# Altium integrated library Atmel Microcontroller megaAVR.IntLib: 654 symbols (part 17 of 29)
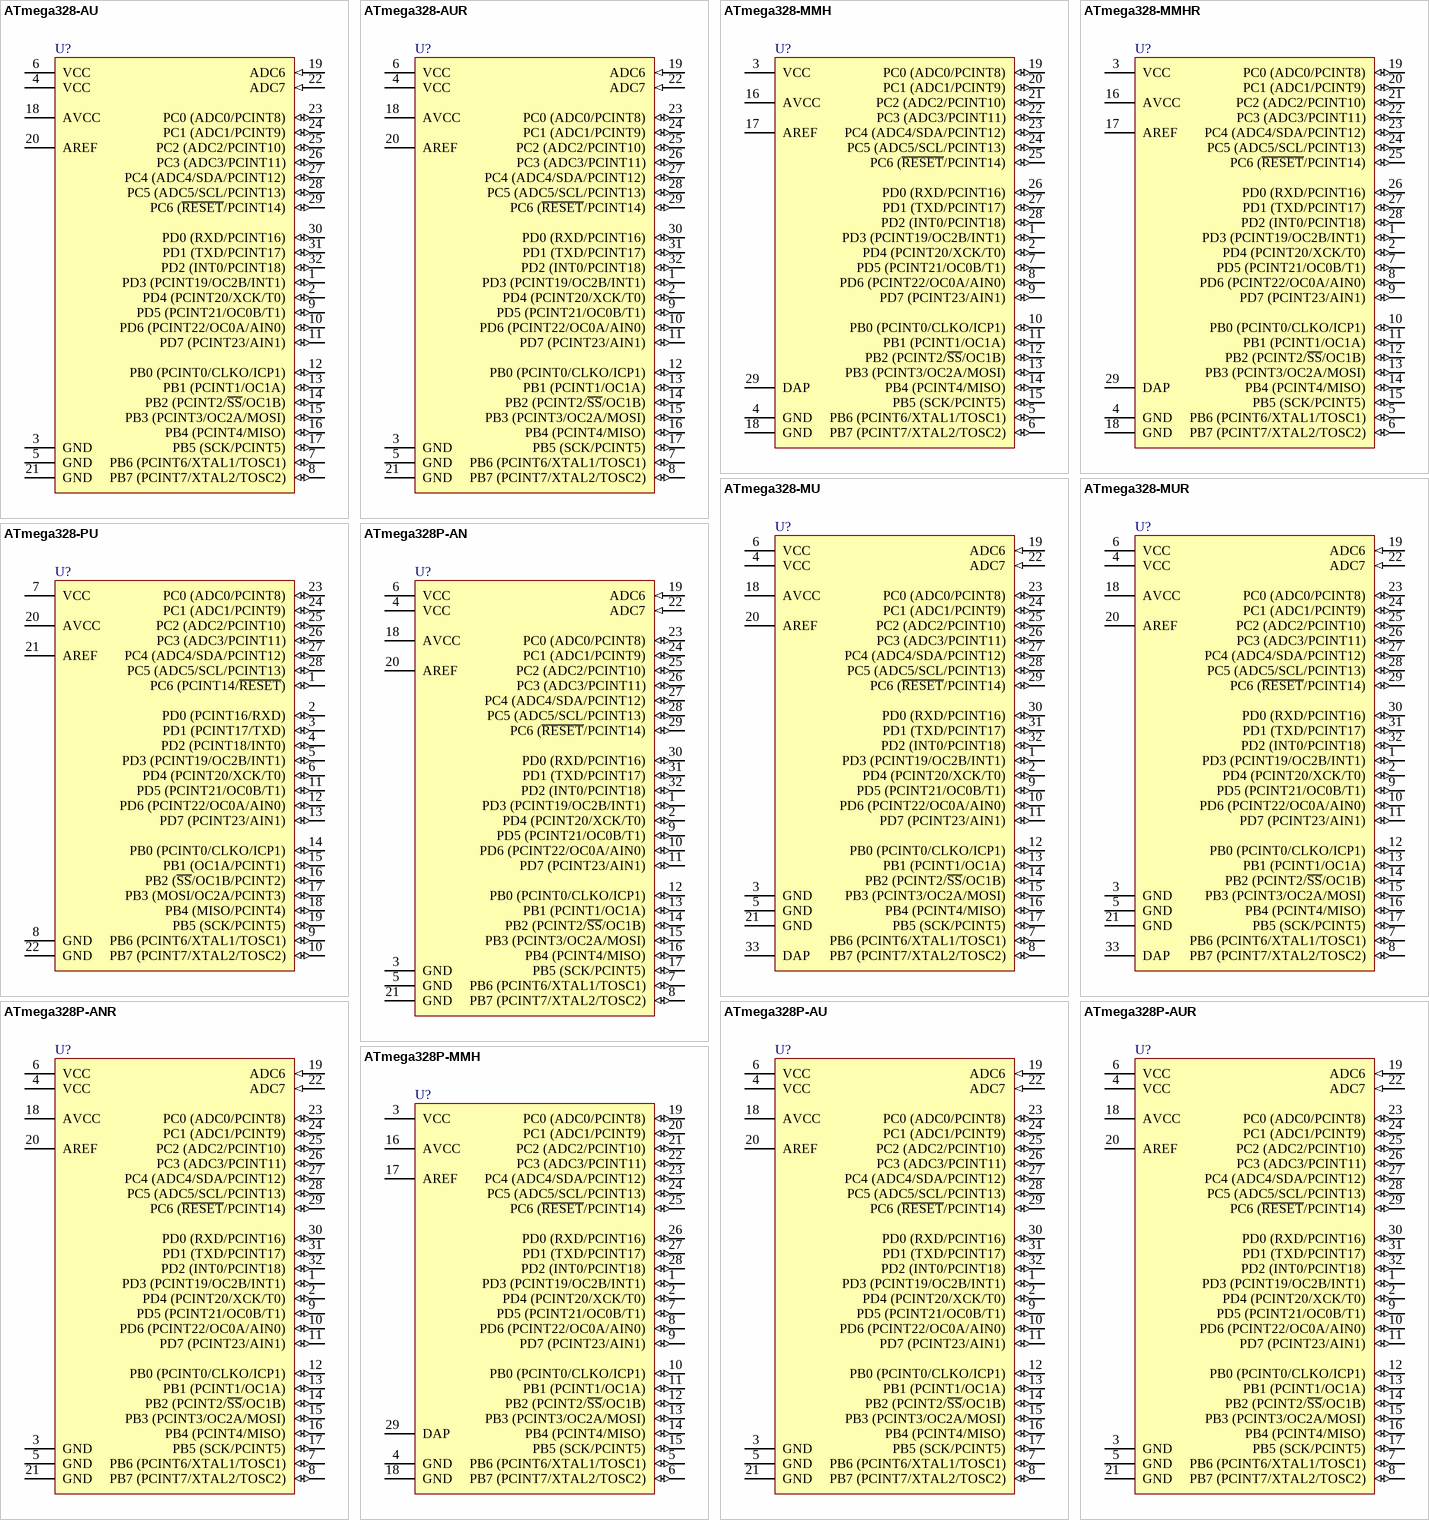
[diagram p103: symbols ATmega328-AU to ATmega328P-MMH]

## ATmega328-MUR
designator U?
8-bit AVR Microcontroller, 32KB Flash, 1KB EEPROM, 2KB SRAM, 32-pin MLF, Industrial Grade (-40°C to 85°C), Reel; DatasheetVersion: revD, May-2011; PackageVersion: revE, May-2006; PackageReference: 32M1-A; PackageDescription: 32-Pin Micro Lead Frame Package (MLF),  5 x 5 x 1.0 mm Body, Pitch 0.50 mm, 3.10mm Exposed Pad; Code_JEDEC: MO-220-VHHD-2; ComponentLink1Description: Manufacturer URL; ComponentLink1URL: http://www.atmel.com/; ComponentLink2Description: ATmega48A/48PA/88A/88PA/168A/168PA/328/328P Datasheet; ComponentLink2URL: http://www.atmel.com/dyn/resources/prod_documents/8271.pdf; ComponentLink3Description: ATmega48A/48PA/88A/88PA/168A/168PA/328/328P Summary; ComponentLink3URL: http://www.atmel.com/dyn/resources/prod_documents/8271S.pdf
footprint 32M1-A_N (QFN, 32-Leads, Body 5x5mm, Pitch 0.5mm, Thermal Pad 3.3x3.3mm, IPC Medium Density)
footprint 32M1-A_L (QFN, 32-Leads, Body 5x5mm, Pitch 0.5mm, Thermal Pad 3.3x3.3mm, IPC High Density)
footprint 32M1-A_M (QFN, 32-Leads, Body 5x5mm, Pitch 0.5mm, Thermal Pad 3.3x3.3mm, IPC Low Density)
pins: 1 PD3 (PCINT19/OC2B/INT1) (io), 2 PD4 (PCINT20/XCK/T0) (io), 3 GND (power), 4 VCC (power), 5 GND (power), 6 VCC (power), 7 PB6 (PCINT6/XTAL1/TOSC1) (io), 8 PB7 (PCINT7/XTAL2/TOSC2) (io), 9 PD5 (PCINT21/OC0B/T1) (io), 10 PD6 (PCINT22/OC0A/AIN0) (io), 11 PD7 (PCINT23/AIN1) (io), 12 PB0 (PCINT0/CLKO/ICP1) (io), 13 PB1 (PCINT1/OC1A) (io), 14 PB2 (PCINT2/~{SS}/OC1B) (io), 15 PB3 (PCINT3/OC2A/MOSI) (io), 16 PB4 (PCINT4/MISO) (io), 17 PB5 (SCK/PCINT5) (io), 18 AVCC (power), 19 ADC6 (in), 20 AREF, 21 GND (power), 22 ADC7 (in), 23 PC0 (ADC0/PCINT8) (io), 24 PC1 (ADC1/PCINT9) (io), 25 PC2 (ADC2/PCINT10) (io), 26 PC3 (ADC3/PCINT11) (io), 27 PC4 (ADC4/SDA/PCINT12) (io), 28 PC5 (ADC5/SCL/PCINT13) (io), 29 PC6 (~{RESET}/PCINT14) (io), 30 PD0 (RXD/PCINT16) (io), 31 PD1 (TXD/PCINT17) (io), 32 PD2 (INT0/PCINT18) (io), 33 DAP (power)

## ATmega328-PU
designator U?
8-bit AVR Microcontroller, 32KB Flash, 1KB EEPROM, 2KB SRAM, 28-pin PDIP, Industrial Grade (-40°C to 85°C); DatasheetVersion: revD, May-2011; PackageVersion: revB, Sep-2001; PackageReference: 28P3; PackageDescription: 28-lead (0.300"/7.62mm Wide) Plastic Dual Inline Package (PDIP); ComponentLink1Description: Manufacturer URL; ComponentLink1URL: http://www.atmel.com/; ComponentLink2Description: ATmega48A/48PA/88A/88PA/168A/168PA/328/328P Datasheet; ComponentLink2URL: http://www.atmel.com/dyn/resources/prod_documents/8271.pdf; ComponentLink3Description: ATmega48A/48PA/88A/88PA/168A/168PA/328/328P Summary; ComponentLink3URL: http://www.atmel.com/dyn/resources/prod_documents/8271S.pdf
footprint 28P3 (DIP, 28-Leads, Row Spacing 7.62mm, Pitch 2.54mm, Body 34.67x7.3mm)
pins: 1 PC6 (PCINT14/~{RESET}) (io), 2 PD0 (PCINT16/RXD) (io), 3 PD1 (PCINT17/TXD) (io), 4 PD2 (PCINT18/INT0) (io), 5 PD3 (PCINT19/OC2B/INT1) (io), 6 PD4 (PCINT20/XCK/T0) (io), 7 VCC (power), 8 GND (power), 9 PB6 (PCINT6/XTAL1/TOSC1) (io), 10 PB7 (PCINT7/XTAL2/TOSC2) (io), 11 PD5 (PCINT21/OC0B/T1) (io), 12 PD6 (PCINT22/OC0A/AIN0) (io), 13 PD7 (PCINT23/AIN1) (io), 14 PB0 (PCINT0/CLKO/ICP1) (io), 15 PB1 (OC1A/PCINT1) (io), 16 PB2 (~{SS}/OC1B/PCINT2) (io), 17 PB3 (MOSI/OC2A/PCINT3) (io), 18 PB4 (MISO/PCINT4) (io), 19 PB5 (SCK/PCINT5) (io), 20 AVCC (power), 21 AREF (power), 22 GND (power), 23 PC0 (ADC0/PCINT8) (io), 24 PC1 (ADC1/PCINT9) (io), 25 PC2 (ADC2/PCINT10) (io), 26 PC3 (ADC3/PCINT11) (io), 27 PC4 (ADC4/SDA/PCINT12) (io), 28 PC5 (ADC5/SCL/PCINT13) (io)

## ATmega328P-AN
designator U?
8-bit AVR Microcontroller, 32KB Flash, 1KB EEPROM, 2KB SRAM, 32-pin TQFP, Industrial Grade (-40°C to 105°C); DatasheetVersion: revD, May-2011; PackageVersion: revC, Oct-2010; PackageReference: 32A; PackageDescription: 32-Lead, 7x7x1.0 mm Body, 0.8mm Lead Pitch, Thin Profile Plastic Quad Flat Package (TQFP); Code_JEDEC: MS-026-ABA; ComponentLink1Description: Manufacturer URL; ComponentLink1URL: http://www.atmel.com/; ComponentLink2Description: ATmega48A/48PA/88A/88PA/168A/168PA/328/328P Datasheet; ComponentLink2URL: http://www.atmel.com/dyn/resources/prod_documents/8271.pdf; ComponentLink3Description: ATmega48A/48PA/88A/88PA/168A/168PA/328/328P Summary; ComponentLink3URL: http://www.atmel.com/dyn/resources/prod_documents/8271S.pdf
footprint 32A_N (Thin QFP, 32-Leads, Body 7x7mm, Pitch 0.8mm, IPC Medium Density)
footprint 32A_L (Thin QFP, 32-Leads, Body 7x7mm, Pitch 0.8mm, IPC High Density)
footprint 32A_M (Thin QFP, 32-Leads, Body 7x7mm, Pitch 0.8mm, IPC Low Density)
pins: 1 PD3 (PCINT19/OC2B/INT1) (io), 2 PD4 (PCINT20/XCK/T0) (io), 3 GND (power), 4 VCC (power), 5 GND (power), 6 VCC (power), 7 PB6 (PCINT6/XTAL1/TOSC1) (io), 8 PB7 (PCINT7/XTAL2/TOSC2) (io), 9 PD5 (PCINT21/OC0B/T1) (io), 10 PD6 (PCINT22/OC0A/AIN0) (io), 11 PD7 (PCINT23/AIN1) (io), 12 PB0 (PCINT0/CLKO/ICP1) (io), 13 PB1 (PCINT1/OC1A) (io), 14 PB2 (PCINT2/~{SS}/OC1B) (io), 15 PB3 (PCINT3/OC2A/MOSI) (io), 16 PB4 (PCINT4/MISO) (io), 17 PB5 (SCK/PCINT5) (io), 18 AVCC (power), 19 ADC6 (in), 20 AREF, 21 GND (power), 22 ADC7 (in), 23 PC0 (ADC0/PCINT8) (io), 24 PC1 (ADC1/PCINT9) (io), 25 PC2 (ADC2/PCINT10) (io), 26 PC3 (ADC3/PCINT11) (io), 27 PC4 (ADC4/SDA/PCINT12) (io), 28 PC5 (ADC5/SCL/PCINT13) (io), 29 PC6 (~{RESET}/PCINT14) (io), 30 PD0 (RXD/PCINT16) (io), 31 PD1 (TXD/PCINT17) (io), 32 PD2 (INT0/PCINT18) (io)

## ATmega328P-ANR
designator U?
8-bit AVR Microcontroller, 32KB Flash, 1KB EEPROM, 2KB SRAM, 32-pin TQFP, Industrial Grade (-40°C to 105°C), Reel; DatasheetVersion: revD, May-2011; PackageVersion: revC, Oct-2010; PackageReference: 32A; PackageDescription: 32-Lead, 7x7x1.0 mm Body, 0.8mm Lead Pitch, Thin Profile Plastic Quad Flat Package (TQFP); Code_JEDEC: MS-026-ABA; ComponentLink1Description: Manufacturer URL; ComponentLink1URL: http://www.atmel.com/; ComponentLink2Description: ATmega48A/48PA/88A/88PA/168A/168PA/328/328P Datasheet; ComponentLink2URL: http://www.atmel.com/dyn/resources/prod_documents/8271.pdf; ComponentLink3Description: ATmega48A/48PA/88A/88PA/168A/168PA/328/328P Summary; ComponentLink3URL: http://www.atmel.com/dyn/resources/prod_documents/8271S.pdf
footprint 32A_N (Thin QFP, 32-Leads, Body 7x7mm, Pitch 0.8mm, IPC Medium Density)
footprint 32A_L (Thin QFP, 32-Leads, Body 7x7mm, Pitch 0.8mm, IPC High Density)
footprint 32A_M (Thin QFP, 32-Leads, Body 7x7mm, Pitch 0.8mm, IPC Low Density)
pins: 1 PD3 (PCINT19/OC2B/INT1) (io), 2 PD4 (PCINT20/XCK/T0) (io), 3 GND (power), 4 VCC (power), 5 GND (power), 6 VCC (power), 7 PB6 (PCINT6/XTAL1/TOSC1) (io), 8 PB7 (PCINT7/XTAL2/TOSC2) (io), 9 PD5 (PCINT21/OC0B/T1) (io), 10 PD6 (PCINT22/OC0A/AIN0) (io), 11 PD7 (PCINT23/AIN1) (io), 12 PB0 (PCINT0/CLKO/ICP1) (io), 13 PB1 (PCINT1/OC1A) (io), 14 PB2 (PCINT2/~{SS}/OC1B) (io), 15 PB3 (PCINT3/OC2A/MOSI) (io), 16 PB4 (PCINT4/MISO) (io), 17 PB5 (SCK/PCINT5) (io), 18 AVCC (power), 19 ADC6 (in), 20 AREF, 21 GND (power), 22 ADC7 (in), 23 PC0 (ADC0/PCINT8) (io), 24 PC1 (ADC1/PCINT9) (io), 25 PC2 (ADC2/PCINT10) (io), 26 PC3 (ADC3/PCINT11) (io), 27 PC4 (ADC4/SDA/PCINT12) (io), 28 PC5 (ADC5/SCL/PCINT13) (io), 29 PC6 (~{RESET}/PCINT14) (io), 30 PD0 (RXD/PCINT16) (io), 31 PD1 (TXD/PCINT17) (io), 32 PD2 (INT0/PCINT18) (io)

## ATmega328P-AU
designator U?
8-bit AVR Microcontroller, 32KB Flash, 1KB EEPROM, 2KB SRAM, 32-pin TQFP, Industrial Grade (-40°C to 85°C); DatasheetVersion: revD, May-2011; PackageVersion: revC, Oct-2010; PackageReference: 32A; PackageDescription: 32-Lead, 7x7x1.0 mm Body, 0.8mm Lead Pitch, Thin Profile Plastic Quad Flat Package (TQFP); Code_JEDEC: MS-026-ABA; ComponentLink1Description: Manufacturer URL; ComponentLink1URL: http://www.atmel.com/; ComponentLink2Description: ATmega48A/48PA/88A/88PA/168A/168PA/328/328P Datasheet; ComponentLink2URL: http://www.atmel.com/dyn/resources/prod_documents/doc8271.pdf; ComponentLink3Description: ATmega48A/48PA/88A/88PA/168A/168PA/328/328P Summary; ComponentLink3URL: http://www.atmel.com/dyn/resources/prod_documents/8271S.pdf
footprint 32A_N (Thin QFP, 32-Leads, Body 7x7mm, Pitch 0.8mm, IPC Medium Density)
footprint 32A_L (Thin QFP, 32-Leads, Body 7x7mm, Pitch 0.8mm, IPC High Density)
footprint 32A_M (Thin QFP, 32-Leads, Body 7x7mm, Pitch 0.8mm, IPC Low Density)
pins: 1 PD3 (PCINT19/OC2B/INT1) (io), 2 PD4 (PCINT20/XCK/T0) (io), 3 GND (power), 4 VCC (power), 5 GND (power), 6 VCC (power), 7 PB6 (PCINT6/XTAL1/TOSC1) (io), 8 PB7 (PCINT7/XTAL2/TOSC2) (io), 9 PD5 (PCINT21/OC0B/T1) (io), 10 PD6 (PCINT22/OC0A/AIN0) (io), 11 PD7 (PCINT23/AIN1) (io), 12 PB0 (PCINT0/CLKO/ICP1) (io), 13 PB1 (PCINT1/OC1A) (io), 14 PB2 (PCINT2/~{SS}/OC1B) (io), 15 PB3 (PCINT3/OC2A/MOSI) (io), 16 PB4 (PCINT4/MISO) (io), 17 PB5 (SCK/PCINT5) (io), 18 AVCC (power), 19 ADC6 (in), 20 AREF, 21 GND (power), 22 ADC7 (in), 23 PC0 (ADC0/PCINT8) (io), 24 PC1 (ADC1/PCINT9) (io), 25 PC2 (ADC2/PCINT10) (io), 26 PC3 (ADC3/PCINT11) (io), 27 PC4 (ADC4/SDA/PCINT12) (io), 28 PC5 (ADC5/SCL/PCINT13) (io), 29 PC6 (~{RESET}/PCINT14) (io), 30 PD0 (RXD/PCINT16) (io), 31 PD1 (TXD/PCINT17) (io), 32 PD2 (INT0/PCINT18) (io)

## ATmega328P-AUR
designator U?
8-bit AVR Microcontroller, 32KB Flash, 1KB EEPROM, 2KB SRAM, 32-pin TQFP, Industrial Grade (-40°C to 85°C), Reel; DatasheetVersion: revD, May-2011; PackageVersion: revC, Oct-2010; PackageReference: 32A; PackageDescription: 32-Lead, 7x7x1.0 mm Body, 0.8mm Lead Pitch, Thin Profile Plastic Quad Flat Package (TQFP); Code_JEDEC: MS-026-ABA; ComponentLink1Description: Manufacturer URL; ComponentLink1URL: http://www.atmel.com/; ComponentLink2Description: ATmega48A/48PA/88A/88PA/168A/168PA/328/328P Datasheet; ComponentLink2URL: http://www.atmel.com/dyn/resources/prod_documents/doc8271.pdf; ComponentLink3Description: ATmega48A/48PA/88A/88PA/168A/168PA/328/328P Summary; ComponentLink3URL: http://www.atmel.com/dyn/resources/prod_documents/8271S.pdf
footprint 32A_N (Thin QFP, 32-Leads, Body 7x7mm, Pitch 0.8mm, IPC Medium Density)
footprint 32A_L (Thin QFP, 32-Leads, Body 7x7mm, Pitch 0.8mm, IPC High Density)
footprint 32A_M (Thin QFP, 32-Leads, Body 7x7mm, Pitch 0.8mm, IPC Low Density)
pins: 1 PD3 (PCINT19/OC2B/INT1) (io), 2 PD4 (PCINT20/XCK/T0) (io), 3 GND (power), 4 VCC (power), 5 GND (power), 6 VCC (power), 7 PB6 (PCINT6/XTAL1/TOSC1) (io), 8 PB7 (PCINT7/XTAL2/TOSC2) (io), 9 PD5 (PCINT21/OC0B/T1) (io), 10 PD6 (PCINT22/OC0A/AIN0) (io), 11 PD7 (PCINT23/AIN1) (io), 12 PB0 (PCINT0/CLKO/ICP1) (io), 13 PB1 (PCINT1/OC1A) (io), 14 PB2 (PCINT2/~{SS}/OC1B) (io), 15 PB3 (PCINT3/OC2A/MOSI) (io), 16 PB4 (PCINT4/MISO) (io), 17 PB5 (SCK/PCINT5) (io), 18 AVCC (power), 19 ADC6 (in), 20 AREF, 21 GND (power), 22 ADC7 (in), 23 PC0 (ADC0/PCINT8) (io), 24 PC1 (ADC1/PCINT9) (io), 25 PC2 (ADC2/PCINT10) (io), 26 PC3 (ADC3/PCINT11) (io), 27 PC4 (ADC4/SDA/PCINT12) (io), 28 PC5 (ADC5/SCL/PCINT13) (io), 29 PC6 (~{RESET}/PCINT14) (io), 30 PD0 (RXD/PCINT16) (io), 31 PD1 (TXD/PCINT17) (io), 32 PD2 (INT0/PCINT18) (io)

## ATmega328P-MMH
designator U?
8-bit AVR Microcontroller, 32KB Flash, 1KB EEPROM, 2KB SRAM, 28-pin VQFN, Industrial Grade (-40°C to 85°C); DatasheetVersion: revD, May-2011; PackageVersion: revB, Nov-2008; PackageReference: 28M1; PackageDescription: 28-pad, 4x4x1.0mm Body, Pitch 0.45mm, 2.4x2.4mm Exposed Pad, Plastic Very Thin QFN Package (VQFN); ComponentLink1Description: Manufacturer URL; ComponentLink1URL: http://www.atmel.com/; ComponentLink2Description: ATmega48A/48PA/88A/88PA/168A/168PA/328/328P Datasheet; ComponentLink2URL: http://www.atmel.com/dyn/resources/prod_documents/8271.pdf; ComponentLink3Description: ATmega48A/48PA/88A/88PA/168A/168PA/328/328P Summary; ComponentLink3URL: http://www.atmel.com/dyn/resources/prod_documents/8271S.pdf
footprint 28M1_N (QFN, 28-Leads, Body 4x4mm, Pitch 0.45mm, Thermal Pad 2.5x2.5mm, IPC Medium Density)
footprint 28M1_L (QFN, 28-Leads, Body 4x4mm, Pitch 0.45mm, Thermal Pad 2.5x2.5mm, IPC High Density)
footprint 28M1_M (QFN, 28-Leads, Body 4x4mm, Pitch 0.45mm, Thermal Pad 2.5x2.5mm, IPC Low Density)
pins: 1 PD3 (PCINT19/OC2B/INT1) (io), 2 PD4 (PCINT20/XCK/T0) (io), 3 VCC (power), 4 GND (power), 5 PB6 (PCINT6/XTAL1/TOSC1) (io), 6 PB7 (PCINT7/XTAL2/TOSC2) (io), 7 PD5 (PCINT21/OC0B/T1) (io), 8 PD6 (PCINT22/OC0A/AIN0) (io), 9 PD7 (PCINT23/AIN1) (io), 10 PB0 (PCINT0/CLKO/ICP1) (io), 11 PB1 (PCINT1/OC1A) (io), 12 PB2 (PCINT2/~{SS}/OC1B) (io), 13 PB3 (PCINT3/OC2A/MOSI) (io), 14 PB4 (PCINT4/MISO) (io), 15 PB5 (SCK/PCINT5) (io), 16 AVCC (power), 17 AREF (power), 18 GND (power), 19 PC0 (ADC0/PCINT8) (io), 20 PC1 (ADC1/PCINT9) (io), 21 PC2 (ADC2/PCINT10) (io), 22 PC3 (ADC3/PCINT11) (io), 23 PC4 (ADC4/SDA/PCINT12) (io), 24 PC5 (ADC5/SCL/PCINT13) (io), 25 PC6 (~{RESET}/PCINT14) (io), 26 PD0 (RXD/PCINT16) (io), 27 PD1 (TXD/PCINT17) (io), 28 PD2 (INT0/PCINT18) (io), 29 DAP (power)

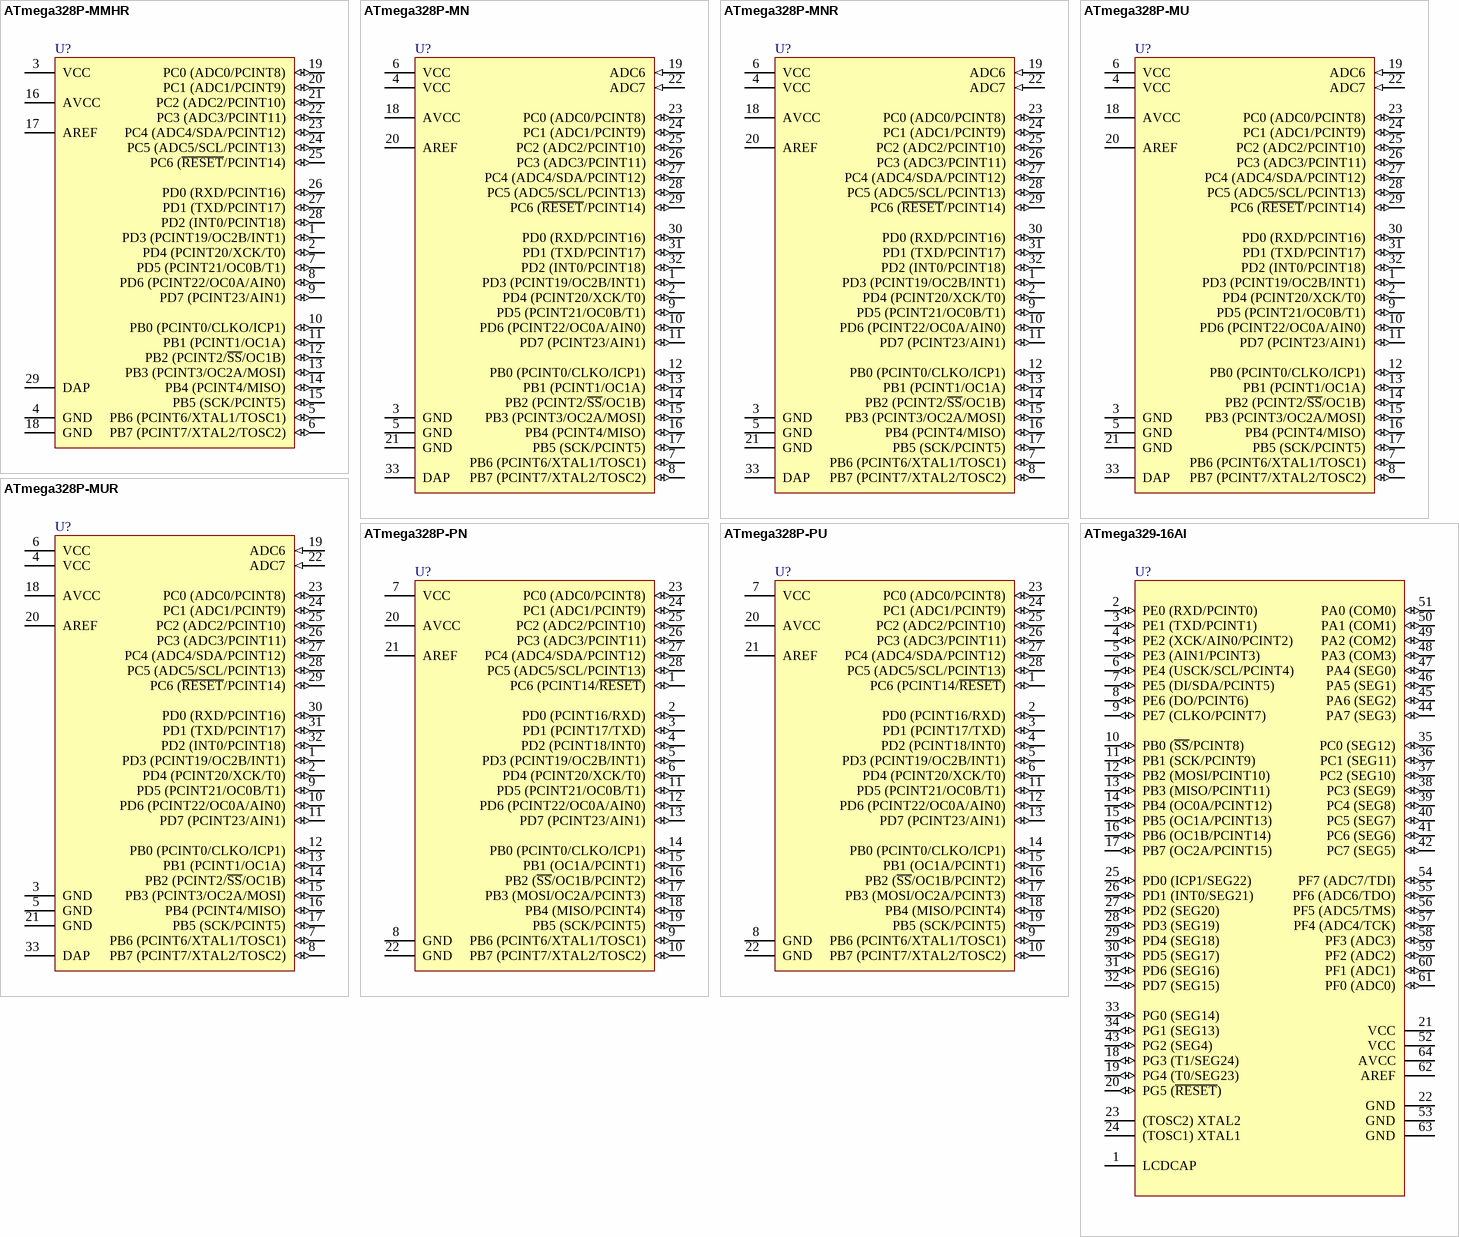
[diagram p43: symbols ATmega328P-MMHR to ATmega329-16AI]

## ATmega328P-MMHR
designator U?
8-bit AVR Microcontroller, 32KB Flash, 1KB EEPROM, 2KB SRAM, 28-pin VQFN, Industrial Grade (-40°C to 85°C), Reel; DatasheetVersion: revD, May-2011; PackageVersion: revB, Nov-2008; PackageReference: 28M1; PackageDescription: 28-pad, 4x4x1.0mm Body, Pitch 0.45mm, 2.4x2.4mm Exposed Pad, Plastic Very Thin QFN Package (VQFN); ComponentLink1Description: Manufacturer URL; ComponentLink1URL: http://www.atmel.com/; ComponentLink2Description: ATmega48A/48PA/88A/88PA/168A/168PA/328/328P Datasheet; ComponentLink2URL: http://www.atmel.com/dyn/resources/prod_documents/8271.pdf; ComponentLink3Description: ATmega48A/48PA/88A/88PA/168A/168PA/328/328P Summary; ComponentLink3URL: http://www.atmel.com/dyn/resources/prod_documents/8271S.pdf
footprint 28M1_N (QFN, 28-Leads, Body 4x4mm, Pitch 0.45mm, Thermal Pad 2.5x2.5mm, IPC Medium Density)
footprint 28M1_L (QFN, 28-Leads, Body 4x4mm, Pitch 0.45mm, Thermal Pad 2.5x2.5mm, IPC High Density)
footprint 28M1_M (QFN, 28-Leads, Body 4x4mm, Pitch 0.45mm, Thermal Pad 2.5x2.5mm, IPC Low Density)
pins: 1 PD3 (PCINT19/OC2B/INT1) (io), 2 PD4 (PCINT20/XCK/T0) (io), 3 VCC (power), 4 GND (power), 5 PB6 (PCINT6/XTAL1/TOSC1) (io), 6 PB7 (PCINT7/XTAL2/TOSC2) (io), 7 PD5 (PCINT21/OC0B/T1) (io), 8 PD6 (PCINT22/OC0A/AIN0) (io), 9 PD7 (PCINT23/AIN1) (io), 10 PB0 (PCINT0/CLKO/ICP1) (io), 11 PB1 (PCINT1/OC1A) (io), 12 PB2 (PCINT2/~{SS}/OC1B) (io), 13 PB3 (PCINT3/OC2A/MOSI) (io), 14 PB4 (PCINT4/MISO) (io), 15 PB5 (SCK/PCINT5) (io), 16 AVCC (power), 17 AREF (power), 18 GND (power), 19 PC0 (ADC0/PCINT8) (io), 20 PC1 (ADC1/PCINT9) (io), 21 PC2 (ADC2/PCINT10) (io), 22 PC3 (ADC3/PCINT11) (io), 23 PC4 (ADC4/SDA/PCINT12) (io), 24 PC5 (ADC5/SCL/PCINT13) (io), 25 PC6 (~{RESET}/PCINT14) (io), 26 PD0 (RXD/PCINT16) (io), 27 PD1 (TXD/PCINT17) (io), 28 PD2 (INT0/PCINT18) (io), 29 DAP (power)

## ATmega328P-MN
designator U?
8-bit AVR Microcontroller, 32KB Flash, 1KB EEPROM, 2KB SRAM, 32-pin MLF, Industrial Grade (-40°C to 105°C); DatasheetVersion: revD, May-2011; PackageVersion: revE, May-2006; PackageReference: 32M1-A; PackageDescription: 32-Pin Micro Lead Frame Package (MLF),  5 x 5 x 1.0 mm Body, Pitch 0.50 mm, 3.10mm Exposed Pad; Code_JEDEC: MO-220-VHHD-2; ComponentLink1Description: Manufacturer URL; ComponentLink1URL: http://www.atmel.com/; ComponentLink2Description: ATmega48A/48PA/88A/88PA/168A/168PA/328/328P Datasheet; ComponentLink2URL: http://www.atmel.com/dyn/resources/prod_documents/8271.pdf; ComponentLink3Description: ATmega48A/48PA/88A/88PA/168A/168PA/328/328P Summary; ComponentLink3URL: http://www.atmel.com/dyn/resources/prod_documents/8271S.pdf
footprint 32M1-A_N (QFN, 32-Leads, Body 5x5mm, Pitch 0.5mm, Thermal Pad 3.3x3.3mm, IPC Medium Density)
footprint 32M1-A_L (QFN, 32-Leads, Body 5x5mm, Pitch 0.5mm, Thermal Pad 3.3x3.3mm, IPC High Density)
footprint 32M1-A_M (QFN, 32-Leads, Body 5x5mm, Pitch 0.5mm, Thermal Pad 3.3x3.3mm, IPC Low Density)
pins: 1 PD3 (PCINT19/OC2B/INT1) (io), 2 PD4 (PCINT20/XCK/T0) (io), 3 GND (power), 4 VCC (power), 5 GND (power), 6 VCC (power), 7 PB6 (PCINT6/XTAL1/TOSC1) (io), 8 PB7 (PCINT7/XTAL2/TOSC2) (io), 9 PD5 (PCINT21/OC0B/T1) (io), 10 PD6 (PCINT22/OC0A/AIN0) (io), 11 PD7 (PCINT23/AIN1) (io), 12 PB0 (PCINT0/CLKO/ICP1) (io), 13 PB1 (PCINT1/OC1A) (io), 14 PB2 (PCINT2/~{SS}/OC1B) (io), 15 PB3 (PCINT3/OC2A/MOSI) (io), 16 PB4 (PCINT4/MISO) (io), 17 PB5 (SCK/PCINT5) (io), 18 AVCC (power), 19 ADC6 (in), 20 AREF, 21 GND (power), 22 ADC7 (in), 23 PC0 (ADC0/PCINT8) (io), 24 PC1 (ADC1/PCINT9) (io), 25 PC2 (ADC2/PCINT10) (io), 26 PC3 (ADC3/PCINT11) (io), 27 PC4 (ADC4/SDA/PCINT12) (io), 28 PC5 (ADC5/SCL/PCINT13) (io), 29 PC6 (~{RESET}/PCINT14) (io), 30 PD0 (RXD/PCINT16) (io), 31 PD1 (TXD/PCINT17) (io), 32 PD2 (INT0/PCINT18) (io), 33 DAP (power)

## ATmega328P-MNR
designator U?
8-bit AVR Microcontroller, 32KB Flash, 1KB EEPROM, 2KB SRAM, 32-pin MLF, Industrial Grade (-40°C to 105°C), Reel; DatasheetVersion: revD, May-2011; PackageVersion: revE, May-2006; PackageReference: 32M1-A; PackageDescription: 32-Pin Micro Lead Frame Package (MLF),  5 x 5 x 1.0 mm Body, Pitch 0.50 mm, 3.10mm Exposed Pad; Code_JEDEC: MO-220-VHHD-2; ComponentLink1Description: Manufacturer URL; ComponentLink1URL: http://www.atmel.com/; ComponentLink2Description: ATmega48A/48PA/88A/88PA/168A/168PA/328/328P Datasheet; ComponentLink2URL: http://www.atmel.com/dyn/resources/prod_documents/8271.pdf; ComponentLink3Description: ATmega48A/48PA/88A/88PA/168A/168PA/328/328P Summary; ComponentLink3URL: http://www.atmel.com/dyn/resources/prod_documents/8271S.pdf
footprint 32M1-A_N (QFN, 32-Leads, Body 5x5mm, Pitch 0.5mm, Thermal Pad 3.3x3.3mm, IPC Medium Density)
footprint 32M1-A_L (QFN, 32-Leads, Body 5x5mm, Pitch 0.5mm, Thermal Pad 3.3x3.3mm, IPC High Density)
footprint 32M1-A_M (QFN, 32-Leads, Body 5x5mm, Pitch 0.5mm, Thermal Pad 3.3x3.3mm, IPC Low Density)
pins: 1 PD3 (PCINT19/OC2B/INT1) (io), 2 PD4 (PCINT20/XCK/T0) (io), 3 GND (power), 4 VCC (power), 5 GND (power), 6 VCC (power), 7 PB6 (PCINT6/XTAL1/TOSC1) (io), 8 PB7 (PCINT7/XTAL2/TOSC2) (io), 9 PD5 (PCINT21/OC0B/T1) (io), 10 PD6 (PCINT22/OC0A/AIN0) (io), 11 PD7 (PCINT23/AIN1) (io), 12 PB0 (PCINT0/CLKO/ICP1) (io), 13 PB1 (PCINT1/OC1A) (io), 14 PB2 (PCINT2/~{SS}/OC1B) (io), 15 PB3 (PCINT3/OC2A/MOSI) (io), 16 PB4 (PCINT4/MISO) (io), 17 PB5 (SCK/PCINT5) (io), 18 AVCC (power), 19 ADC6 (in), 20 AREF, 21 GND (power), 22 ADC7 (in), 23 PC0 (ADC0/PCINT8) (io), 24 PC1 (ADC1/PCINT9) (io), 25 PC2 (ADC2/PCINT10) (io), 26 PC3 (ADC3/PCINT11) (io), 27 PC4 (ADC4/SDA/PCINT12) (io), 28 PC5 (ADC5/SCL/PCINT13) (io), 29 PC6 (~{RESET}/PCINT14) (io), 30 PD0 (RXD/PCINT16) (io), 31 PD1 (TXD/PCINT17) (io), 32 PD2 (INT0/PCINT18) (io), 33 DAP (power)

## ATmega328P-MU
designator U?
8-bit AVR Microcontroller, 32KB Flash, 1KB EEPROM, 2KB SRAM, 32-pin MLF, Industrial Grade (-40°C to 85°C); DatasheetVersion: revD, May-2011; PackageVersion: revE, May-2006; PackageReference: 32M1-A; PackageDescription: 32-Pin Micro Lead Frame Package (MLF),  5 x 5 x 1.0 mm Body, Pitch 0.50 mm, 3.10mm Exposed Pad; Code_JEDEC: MO-220-VHHD-2; ComponentLink1Description: Manufacturer URL; ComponentLink1URL: http://www.atmel.com/; ComponentLink2Description: ATmega48A/48PA/88A/88PA/168A/168PA/328/328P Datasheet; ComponentLink2URL: http://www.atmel.com/dyn/resources/prod_documents/8271.pdf; ComponentLink3Description: ATmega48A/48PA/88A/88PA/168A/168PA/328/328P Summary; ComponentLink3URL: http://www.atmel.com/dyn/resources/prod_documents/8271S.pdf
footprint 32M1-A_N (QFN, 32-Leads, Body 5x5mm, Pitch 0.5mm, Thermal Pad 3.3x3.3mm, IPC Medium Density)
footprint 32M1-A_L (QFN, 32-Leads, Body 5x5mm, Pitch 0.5mm, Thermal Pad 3.3x3.3mm, IPC High Density)
footprint 32M1-A_M (QFN, 32-Leads, Body 5x5mm, Pitch 0.5mm, Thermal Pad 3.3x3.3mm, IPC Low Density)
pins: 1 PD3 (PCINT19/OC2B/INT1) (io), 2 PD4 (PCINT20/XCK/T0) (io), 3 GND (power), 4 VCC (power), 5 GND (power), 6 VCC (power), 7 PB6 (PCINT6/XTAL1/TOSC1) (io), 8 PB7 (PCINT7/XTAL2/TOSC2) (io), 9 PD5 (PCINT21/OC0B/T1) (io), 10 PD6 (PCINT22/OC0A/AIN0) (io), 11 PD7 (PCINT23/AIN1) (io), 12 PB0 (PCINT0/CLKO/ICP1) (io), 13 PB1 (PCINT1/OC1A) (io), 14 PB2 (PCINT2/~{SS}/OC1B) (io), 15 PB3 (PCINT3/OC2A/MOSI) (io), 16 PB4 (PCINT4/MISO) (io), 17 PB5 (SCK/PCINT5) (io), 18 AVCC (power), 19 ADC6 (in), 20 AREF, 21 GND (power), 22 ADC7 (in), 23 PC0 (ADC0/PCINT8) (io), 24 PC1 (ADC1/PCINT9) (io), 25 PC2 (ADC2/PCINT10) (io), 26 PC3 (ADC3/PCINT11) (io), 27 PC4 (ADC4/SDA/PCINT12) (io), 28 PC5 (ADC5/SCL/PCINT13) (io), 29 PC6 (~{RESET}/PCINT14) (io), 30 PD0 (RXD/PCINT16) (io), 31 PD1 (TXD/PCINT17) (io), 32 PD2 (INT0/PCINT18) (io), 33 DAP (power)

## ATmega328P-MUR
designator U?
8-bit AVR Microcontroller, 32KB Flash, 1KB EEPROM, 2KB SRAM, 32-pin MLF, Industrial Grade (-40°C to 85°C), Reel; DatasheetVersion: revD, May-2011; PackageVersion: revE, May-2006; PackageReference: 32M1-A; PackageDescription: 32-Pin Micro Lead Frame Package (MLF),  5 x 5 x 1.0 mm Body, Pitch 0.50 mm, 3.10mm Exposed Pad; Code_JEDEC: MO-220-VHHD-2; ComponentLink1Description: Manufacturer URL; ComponentLink1URL: http://www.atmel.com/; ComponentLink2Description: ATmega48A/48PA/88A/88PA/168A/168PA/328/328P Datasheet; ComponentLink2URL: http://www.atmel.com/dyn/resources/prod_documents/8271.pdf; ComponentLink3Description: ATmega48A/48PA/88A/88PA/168A/168PA/328/328P Summary; ComponentLink3URL: http://www.atmel.com/dyn/resources/prod_documents/8271S.pdf
footprint 32M1-A_N (QFN, 32-Leads, Body 5x5mm, Pitch 0.5mm, Thermal Pad 3.3x3.3mm, IPC Medium Density)
footprint 32M1-A_L (QFN, 32-Leads, Body 5x5mm, Pitch 0.5mm, Thermal Pad 3.3x3.3mm, IPC High Density)
footprint 32M1-A_M (QFN, 32-Leads, Body 5x5mm, Pitch 0.5mm, Thermal Pad 3.3x3.3mm, IPC Low Density)
pins: 1 PD3 (PCINT19/OC2B/INT1) (io), 2 PD4 (PCINT20/XCK/T0) (io), 3 GND (power), 4 VCC (power), 5 GND (power), 6 VCC (power), 7 PB6 (PCINT6/XTAL1/TOSC1) (io), 8 PB7 (PCINT7/XTAL2/TOSC2) (io), 9 PD5 (PCINT21/OC0B/T1) (io), 10 PD6 (PCINT22/OC0A/AIN0) (io), 11 PD7 (PCINT23/AIN1) (io), 12 PB0 (PCINT0/CLKO/ICP1) (io), 13 PB1 (PCINT1/OC1A) (io), 14 PB2 (PCINT2/~{SS}/OC1B) (io), 15 PB3 (PCINT3/OC2A/MOSI) (io), 16 PB4 (PCINT4/MISO) (io), 17 PB5 (SCK/PCINT5) (io), 18 AVCC (power), 19 ADC6 (in), 20 AREF, 21 GND (power), 22 ADC7 (in), 23 PC0 (ADC0/PCINT8) (io), 24 PC1 (ADC1/PCINT9) (io), 25 PC2 (ADC2/PCINT10) (io), 26 PC3 (ADC3/PCINT11) (io), 27 PC4 (ADC4/SDA/PCINT12) (io), 28 PC5 (ADC5/SCL/PCINT13) (io), 29 PC6 (~{RESET}/PCINT14) (io), 30 PD0 (RXD/PCINT16) (io), 31 PD1 (TXD/PCINT17) (io), 32 PD2 (INT0/PCINT18) (io), 33 DAP (power)

## ATmega328P-PN
designator U?
8-bit AVR Microcontroller, 32KB Flash, 1KB EEPROM, 2KB SRAM, 28-pin PDIP, Industrial Grade (-40°C to 105°C); DatasheetVersion: revD, May-2011; PackageVersion: revB, Sep-2001; PackageReference: 28P3; PackageDescription: 28-lead (0.300"/7.62mm Wide) Plastic Dual Inline Package (PDIP); ComponentLink1Description: Manufacturer URL; ComponentLink1URL: http://www.atmel.com/; ComponentLink2Description: ATmega48A/48PA/88A/88PA/168A/168PA/328/328P Datasheet; ComponentLink2URL: http://www.atmel.com/dyn/resources/prod_documents/8271.pdf; ComponentLink3Description: ATmega48A/48PA/88A/88PA/168A/168PA/328/328P Summary; ComponentLink3URL: http://www.atmel.com/dyn/resources/prod_documents/8271S.pdf
footprint 28P3 (DIP, 28-Leads, Row Spacing 7.62mm, Pitch 2.54mm, Body 34.67x7.3mm)
pins: 1 PC6 (PCINT14/~{RESET}) (io), 2 PD0 (PCINT16/RXD) (io), 3 PD1 (PCINT17/TXD) (io), 4 PD2 (PCINT18/INT0) (io), 5 PD3 (PCINT19/OC2B/INT1) (io), 6 PD4 (PCINT20/XCK/T0) (io), 7 VCC (power), 8 GND (power), 9 PB6 (PCINT6/XTAL1/TOSC1) (io), 10 PB7 (PCINT7/XTAL2/TOSC2) (io), 11 PD5 (PCINT21/OC0B/T1) (io), 12 PD6 (PCINT22/OC0A/AIN0) (io), 13 PD7 (PCINT23/AIN1) (io), 14 PB0 (PCINT0/CLKO/ICP1) (io), 15 PB1 (OC1A/PCINT1) (io), 16 PB2 (~{SS}/OC1B/PCINT2) (io), 17 PB3 (MOSI/OC2A/PCINT3) (io), 18 PB4 (MISO/PCINT4) (io), 19 PB5 (SCK/PCINT5) (io), 20 AVCC (power), 21 AREF (power), 22 GND (power), 23 PC0 (ADC0/PCINT8) (io), 24 PC1 (ADC1/PCINT9) (io), 25 PC2 (ADC2/PCINT10) (io), 26 PC3 (ADC3/PCINT11) (io), 27 PC4 (ADC4/SDA/PCINT12) (io), 28 PC5 (ADC5/SCL/PCINT13) (io)

## ATmega328P-PU
designator U?
8-bit AVR Microcontroller, 32KB Flash, 1KB EEPROM, 2KB SRAM, 28-pin PDIP, Industrial Grade (-40°C to 85°C); DatasheetVersion: revD, May-2011; PackageVersion: revB, Sep-2001; PackageReference: 28P3; PackageDescription: 28-lead (0.300"/7.62mm Wide) Plastic Dual Inline Package (PDIP); ComponentLink1Description: Manufacturer URL; ComponentLink1URL: http://www.atmel.com/; ComponentLink2Description: ATmega48A/48PA/88A/88PA/168A/168PA/328/328P Datasheet; ComponentLink2URL: http://www.atmel.com/dyn/resources/prod_documents/8271.pdf; ComponentLink3Description: ATmega48A/48PA/88A/88PA/168A/168PA/328/328P Summary; ComponentLink3URL: http://www.atmel.com/dyn/resources/prod_documents/8271S.pdf
footprint 28P3 (DIP, 28-Leads, Row Spacing 7.62mm, Pitch 2.54mm, Body 34.67x7.3mm)
pins: 1 PC6 (PCINT14/~{RESET}) (io), 2 PD0 (PCINT16/RXD) (io), 3 PD1 (PCINT17/TXD) (io), 4 PD2 (PCINT18/INT0) (io), 5 PD3 (PCINT19/OC2B/INT1) (io), 6 PD4 (PCINT20/XCK/T0) (io), 7 VCC (power), 8 GND (power), 9 PB6 (PCINT6/XTAL1/TOSC1) (io), 10 PB7 (PCINT7/XTAL2/TOSC2) (io), 11 PD5 (PCINT21/OC0B/T1) (io), 12 PD6 (PCINT22/OC0A/AIN0) (io), 13 PD7 (PCINT23/AIN1) (io), 14 PB0 (PCINT0/CLKO/ICP1) (io), 15 PB1 (OC1A/PCINT1) (io), 16 PB2 (~{SS}/OC1B/PCINT2) (io), 17 PB3 (MOSI/OC2A/PCINT3) (io), 18 PB4 (MISO/PCINT4) (io), 19 PB5 (SCK/PCINT5) (io), 20 AVCC (power), 21 AREF (power), 22 GND (power), 23 PC0 (ADC0/PCINT8) (io), 24 PC1 (ADC1/PCINT9) (io), 25 PC2 (ADC2/PCINT10) (io), 26 PC3 (ADC3/PCINT11) (io), 27 PC4 (ADC4/SDA/PCINT12) (io), 28 PC5 (ADC5/SCL/PCINT13) (io)

## ATmega329-16AI
designator U?
8-bit AVR Microcontroller, 2.7-5.5V, 32KB Flash, 1KB EEPROM, 2KB SRAM, 64-pin TQFP, Industrial Grade (-40°C to 85°C); DatasheetVersion: revJ, Aug-2007; PackageVersion: revC, Oct-2010; PackageReference: 64A; PackageDescription: 64-Pin Plastic Thin Profile Quad Flat Pack, 14 x 14 x 1.0 mm Body, 0.8 mm Pitch (TQFP); Code_JEDEC: MS-026-AEB; ComponentLink1Description: Manufacturer URL; ComponentLink1URL: http://www.atmel.com/
footprint 64A_N (Thin QFP, 64-Leads, Body 14x14mm, Pitch 0.8mm, IPC Medium Density)
footprint 64A_L (Thin QFP, 64-Leads, Body 14x14mm, Pitch 0.8mm, IPC High Density)
footprint 64A_M (Thin QFP, 64-Leads, Body 14x14mm, Pitch 0.8mm, IPC Low Density)
pins: 1 LCDCAP, 2 PE0 (RXD/PCINT0) (io), 3 PE1 (TXD/PCINT1) (io), 4 PE2 (XCK/AIN0/PCINT2) (io), 5 PE3 (AIN1/PCINT3) (io), 6 PE4 (USCK/SCL/PCINT4) (io), 7 PE5 (DI/SDA/PCINT5) (io), 8 PE6 (DO/PCINT6) (io), 9 PE7 (CLKO/PCINT7) (io), 10 PB0 (~{SS}/PCINT8) (io), 11 PB1 (SCK/PCINT9) (io), 12 PB2 (MOSI/PCINT10) (io), 13 PB3 (MISO/PCINT11) (io), 14 PB4 (OC0A/PCINT12) (io), 15 PB5 (OC1A/PCINT13) (io), 16 PB6 (OC1B/PCINT14) (io), 17 PB7 (OC2A/PCINT15) (io), 18 PG3 (T1/SEG24) (io), 19 PG4 (T0/SEG23) (io), 20 PG5 (~{RESET}) (io), 21 VCC (power), 22 GND (power), 23 (TOSC2) XTAL2, 24 (TOSC1) XTAL1, 25 PD0 (ICP1/SEG22) (io), 26 PD1 (INT0/SEG21) (io), 27 PD2 (SEG20) (io), 28 PD3 (SEG19) (io), 29 PD4 (SEG18) (io), 30 PD5 (SEG17) (io), 31 PD6 (SEG16) (io), 32 PD7 (SEG15) (io), 33 PG0 (SEG14) (io), 34 PG1 (SEG13) (io), 35 PC0 (SEG12) (io), 36 PC1 (SEG11) (io), 37 PC2 (SEG10) (io), 38 PC3 (SEG9) (io), 39 PC4 (SEG8) (io), 40 PC5 (SEG7) (io), 41 PC6 (SEG6) (io), 42 PC7 (SEG5) (io), 43 PG2 (SEG4) (io), 44 PA7 (SEG3) (io), 45 PA6 (SEG2) (io), 46 PA5 (SEG1) (io), 47 PA4 (SEG0) (io), 48 PA3 (COM3) (io), 49 PA2 (COM2) (io), 50 PA1 (COM1) (io), 51 PA0 (COM0) (io), 52 VCC (power), 53 GND (power), 54 PF7 (ADC7/TDI) (io), 55 PF6 (ADC6/TDO) (io), 56 PF5 (ADC5/TMS) (io), 57 PF4 (ADC4/TCK) (io), 58 PF3 (ADC3) (io), 59 PF2 (ADC2) (io), 60 PF1 (ADC1) (io), 61 PF0 (ADC0) (io), 62 AREF, 63 GND (power), 64 AVCC (power)

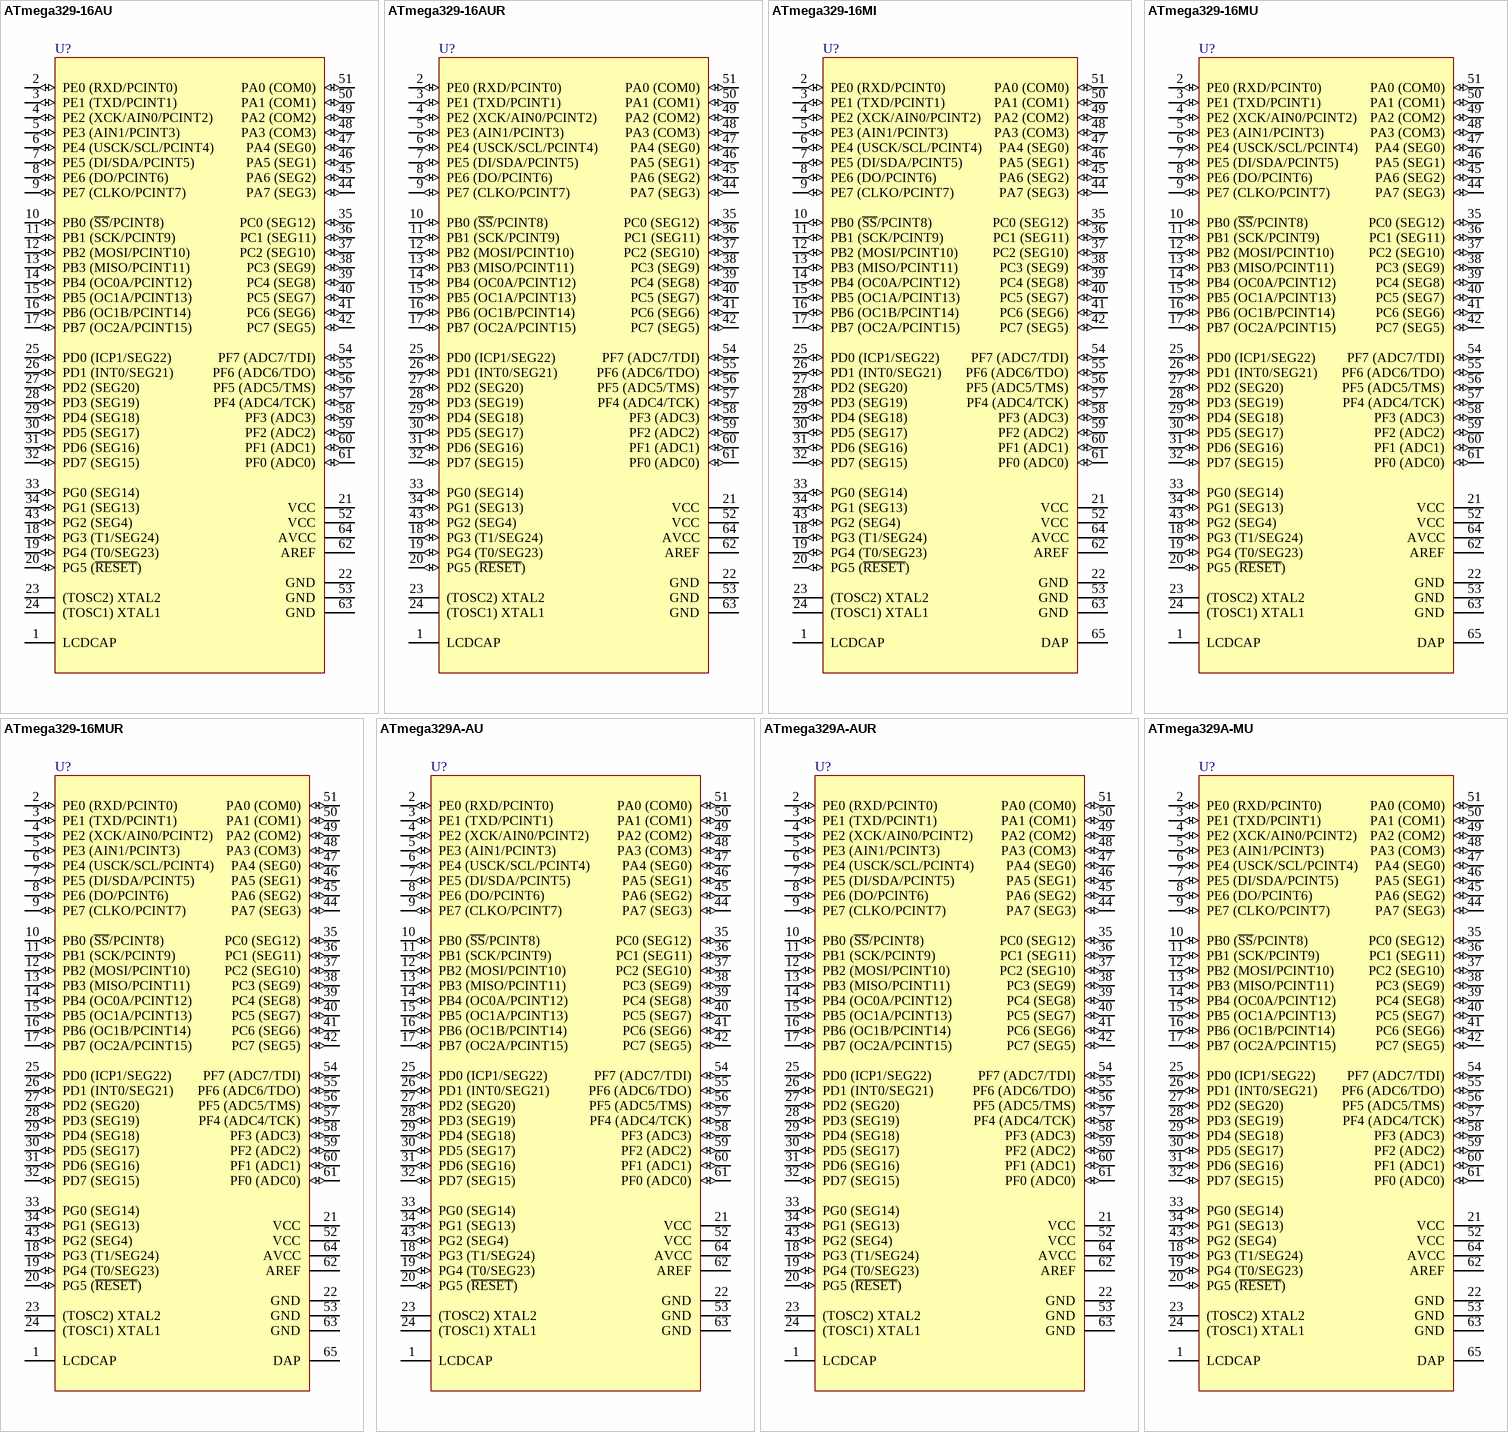
[diagram p44: symbols ATmega329-16AU to ATmega329A-MU]

## ATmega329-16AU
designator U?
8-bit AVR Microcontroller, 2.7-5.5V, 32KB Flash, 1KB EEPROM, 2KB SRAM, 64-pin TQFP, Industrial Grade (-40°C to 85°C); DatasheetVersion: revK, Apr-2011; PackageVersion: revC, Oct-2010; PackageReference: 64A; PackageDescription: 64-Pin Plastic Thin Profile Quad Flat Pack, 14 x 14 x 1.0 mm Body, 0.8 mm Pitch (TQFP); Code_JEDEC: MS-026-AEB; ComponentLink1Description: Manufacturer URL; ComponentLink1URL: http://www.atmel.com/; ComponentLink2Description: ATmega329/3290/649/6490 Datasheet; ComponentLink2URL: http://www.atmel.com/dyn/resources/prod_documents/doc2552.pdf; ComponentLink3Description: ATmega329/3290/649/6490 Summary; ComponentLink3URL: http://www.atmel.com/dyn/resources/prod_documents/2552S.pdf
footprint 64A_N (Thin QFP, 64-Leads, Body 14x14mm, Pitch 0.8mm, IPC Medium Density)
footprint 64A_L (Thin QFP, 64-Leads, Body 14x14mm, Pitch 0.8mm, IPC High Density)
footprint 64A_M (Thin QFP, 64-Leads, Body 14x14mm, Pitch 0.8mm, IPC Low Density)
pins: 1 LCDCAP, 2 PE0 (RXD/PCINT0) (io), 3 PE1 (TXD/PCINT1) (io), 4 PE2 (XCK/AIN0/PCINT2) (io), 5 PE3 (AIN1/PCINT3) (io), 6 PE4 (USCK/SCL/PCINT4) (io), 7 PE5 (DI/SDA/PCINT5) (io), 8 PE6 (DO/PCINT6) (io), 9 PE7 (CLKO/PCINT7) (io), 10 PB0 (~{SS}/PCINT8) (io), 11 PB1 (SCK/PCINT9) (io), 12 PB2 (MOSI/PCINT10) (io), 13 PB3 (MISO/PCINT11) (io), 14 PB4 (OC0A/PCINT12) (io), 15 PB5 (OC1A/PCINT13) (io), 16 PB6 (OC1B/PCINT14) (io), 17 PB7 (OC2A/PCINT15) (io), 18 PG3 (T1/SEG24) (io), 19 PG4 (T0/SEG23) (io), 20 PG5 (~{RESET}) (io), 21 VCC (power), 22 GND (power), 23 (TOSC2) XTAL2, 24 (TOSC1) XTAL1, 25 PD0 (ICP1/SEG22) (io), 26 PD1 (INT0/SEG21) (io), 27 PD2 (SEG20) (io), 28 PD3 (SEG19) (io), 29 PD4 (SEG18) (io), 30 PD5 (SEG17) (io), 31 PD6 (SEG16) (io), 32 PD7 (SEG15) (io), 33 PG0 (SEG14) (io), 34 PG1 (SEG13) (io), 35 PC0 (SEG12) (io), 36 PC1 (SEG11) (io), 37 PC2 (SEG10) (io), 38 PC3 (SEG9) (io), 39 PC4 (SEG8) (io), 40 PC5 (SEG7) (io), 41 PC6 (SEG6) (io), 42 PC7 (SEG5) (io), 43 PG2 (SEG4) (io), 44 PA7 (SEG3) (io), 45 PA6 (SEG2) (io), 46 PA5 (SEG1) (io), 47 PA4 (SEG0) (io), 48 PA3 (COM3) (io), 49 PA2 (COM2) (io), 50 PA1 (COM1) (io), 51 PA0 (COM0) (io), 52 VCC (power), 53 GND (power), 54 PF7 (ADC7/TDI) (io), 55 PF6 (ADC6/TDO) (io), 56 PF5 (ADC5/TMS) (io), 57 PF4 (ADC4/TCK) (io), 58 PF3 (ADC3) (io), 59 PF2 (ADC2) (io), 60 PF1 (ADC1) (io), 61 PF0 (ADC0) (io), 62 AREF, 63 GND (power), 64 AVCC (power)

## ATmega329-16AUR
designator U?
8-bit AVR Microcontroller, 2.7-5.5V, 32KB Flash, 1KB EEPROM, 2KB SRAM, 64-pin TQFP, Industrial Grade (-40°C to 85°C), Reel; DatasheetVersion: revK, Apr-2011; PackageVersion: revC, Oct-2010; PackageReference: 64A; PackageDescription: 64-Pin Plastic Thin Profile Quad Flat Pack, 14 x 14 x 1.0 mm Body, 0.8 mm Pitch (TQFP); Code_JEDEC: MS-026-AEB; ComponentLink1Description: Manufacturer URL; ComponentLink1URL: http://www.atmel.com/; ComponentLink2Description: ATmega329/3290/649/6490 Datasheet; ComponentLink2URL: http://www.atmel.com/dyn/resources/prod_documents/doc2552.pdf; ComponentLink3Description: ATmega329/3290/649/6490 Summary; ComponentLink3URL: http://www.atmel.com/dyn/resources/prod_documents/2552S.pdf
footprint 64A_N (Thin QFP, 64-Leads, Body 14x14mm, Pitch 0.8mm, IPC Medium Density)
footprint 64A_L (Thin QFP, 64-Leads, Body 14x14mm, Pitch 0.8mm, IPC High Density)
footprint 64A_M (Thin QFP, 64-Leads, Body 14x14mm, Pitch 0.8mm, IPC Low Density)
pins: 1 LCDCAP, 2 PE0 (RXD/PCINT0) (io), 3 PE1 (TXD/PCINT1) (io), 4 PE2 (XCK/AIN0/PCINT2) (io), 5 PE3 (AIN1/PCINT3) (io), 6 PE4 (USCK/SCL/PCINT4) (io), 7 PE5 (DI/SDA/PCINT5) (io), 8 PE6 (DO/PCINT6) (io), 9 PE7 (CLKO/PCINT7) (io), 10 PB0 (~{SS}/PCINT8) (io), 11 PB1 (SCK/PCINT9) (io), 12 PB2 (MOSI/PCINT10) (io), 13 PB3 (MISO/PCINT11) (io), 14 PB4 (OC0A/PCINT12) (io), 15 PB5 (OC1A/PCINT13) (io), 16 PB6 (OC1B/PCINT14) (io), 17 PB7 (OC2A/PCINT15) (io), 18 PG3 (T1/SEG24) (io), 19 PG4 (T0/SEG23) (io), 20 PG5 (~{RESET}) (io), 21 VCC (power), 22 GND (power), 23 (TOSC2) XTAL2, 24 (TOSC1) XTAL1, 25 PD0 (ICP1/SEG22) (io), 26 PD1 (INT0/SEG21) (io), 27 PD2 (SEG20) (io), 28 PD3 (SEG19) (io), 29 PD4 (SEG18) (io), 30 PD5 (SEG17) (io), 31 PD6 (SEG16) (io), 32 PD7 (SEG15) (io), 33 PG0 (SEG14) (io), 34 PG1 (SEG13) (io), 35 PC0 (SEG12) (io), 36 PC1 (SEG11) (io), 37 PC2 (SEG10) (io), 38 PC3 (SEG9) (io), 39 PC4 (SEG8) (io), 40 PC5 (SEG7) (io), 41 PC6 (SEG6) (io), 42 PC7 (SEG5) (io), 43 PG2 (SEG4) (io), 44 PA7 (SEG3) (io), 45 PA6 (SEG2) (io), 46 PA5 (SEG1) (io), 47 PA4 (SEG0) (io), 48 PA3 (COM3) (io), 49 PA2 (COM2) (io), 50 PA1 (COM1) (io), 51 PA0 (COM0) (io), 52 VCC (power), 53 GND (power), 54 PF7 (ADC7/TDI) (io), 55 PF6 (ADC6/TDO) (io), 56 PF5 (ADC5/TMS) (io), 57 PF4 (ADC4/TCK) (io), 58 PF3 (ADC3) (io), 59 PF2 (ADC2) (io), 60 PF1 (ADC1) (io), 61 PF0 (ADC0) (io), 62 AREF, 63 GND (power), 64 AVCC (power)

## ATmega329-16MI
designator U?
8-bit AVR Microcontroller, 2.7-5.5V, 32KB Flash, 1KB EEPROM, 2KB SRAM, 64-pin MLF, Industrial Grade (-40°C to 85°C); DatasheetVersion: revJ, Aug-2007; PackageVersion: revH, Oct-2010; PackageReference: 64M1; PackageDescription: 64-Pin Micro Lead Frame Package (MLF), 9 x 9 x 1.0 mm Body, 0.5 mm Pitch, 5.40 mm Exposed Pad; Code_JEDEC: MO-220-VMMD; ComponentLink1Description: Manufacturer URL; ComponentLink1URL: http://www.atmel.com/
footprint 64M1_N (QFN, 64-Leads, Body 9x9mm, Pitch 0.5mm, Thermal Pad 5.6x5.6mm, IPC Medium Density)
footprint 64M1_L (QFN, 64-Leads, Body 9x9mm, Pitch 0.5mm, Thermal Pad 5.6x5.6mm, IPC High Density)
footprint 64M1_M (QFN, 64-Leads, Body 9x9mm, Pitch 0.5mm, Thermal Pad 5.6x5.6mm, IPC Low Density)
pins: 1 LCDCAP, 2 PE0 (RXD/PCINT0) (io), 3 PE1 (TXD/PCINT1) (io), 4 PE2 (XCK/AIN0/PCINT2) (io), 5 PE3 (AIN1/PCINT3) (io), 6 PE4 (USCK/SCL/PCINT4) (io), 7 PE5 (DI/SDA/PCINT5) (io), 8 PE6 (DO/PCINT6) (io), 9 PE7 (CLKO/PCINT7) (io), 10 PB0 (~{SS}/PCINT8) (io), 11 PB1 (SCK/PCINT9) (io), 12 PB2 (MOSI/PCINT10) (io), 13 PB3 (MISO/PCINT11) (io), 14 PB4 (OC0A/PCINT12) (io), 15 PB5 (OC1A/PCINT13) (io), 16 PB6 (OC1B/PCINT14) (io), 17 PB7 (OC2A/PCINT15) (io), 18 PG3 (T1/SEG24) (io), 19 PG4 (T0/SEG23) (io), 20 PG5 (~{RESET}) (io), 21 VCC (power), 22 GND (power), 23 (TOSC2) XTAL2, 24 (TOSC1) XTAL1, 25 PD0 (ICP1/SEG22) (io), 26 PD1 (INT0/SEG21) (io), 27 PD2 (SEG20) (io), 28 PD3 (SEG19) (io), 29 PD4 (SEG18) (io), 30 PD5 (SEG17) (io), 31 PD6 (SEG16) (io), 32 PD7 (SEG15) (io), 33 PG0 (SEG14) (io), 34 PG1 (SEG13) (io), 35 PC0 (SEG12) (io), 36 PC1 (SEG11) (io), 37 PC2 (SEG10) (io), 38 PC3 (SEG9) (io), 39 PC4 (SEG8) (io), 40 PC5 (SEG7) (io), 41 PC6 (SEG6) (io), 42 PC7 (SEG5) (io), 43 PG2 (SEG4) (io), 44 PA7 (SEG3) (io), 45 PA6 (SEG2) (io), 46 PA5 (SEG1) (io), 47 PA4 (SEG0) (io), 48 PA3 (COM3) (io), 49 PA2 (COM2) (io), 50 PA1 (COM1) (io), 51 PA0 (COM0) (io), 52 VCC (power), 53 GND (power), 54 PF7 (ADC7/TDI) (io), 55 PF6 (ADC6/TDO) (io), 56 PF5 (ADC5/TMS) (io), 57 PF4 (ADC4/TCK) (io), 58 PF3 (ADC3) (io), 59 PF2 (ADC2) (io), 60 PF1 (ADC1) (io), 61 PF0 (ADC0) (io), 62 AREF, 63 GND (power), 64 AVCC (power), 65 DAP (power)

## ATmega329-16MU
designator U?
8-bit AVR Microcontroller, 2.7-5.5V, 32KB Flash, 1KB EEPROM, 2KB SRAM, 64-pin MLF, Industrial Grade (-40°C to 85°C); DatasheetVersion: revK, Apr-2011; PackageVersion: revH, Oct-2010; PackageReference: 64M1; PackageDescription: 64-Pin Micro Lead Frame Package (MLF), 9 x 9 x 1.0 mm Body, 0.5 mm Pitch, 5.40 mm Exposed Pad; Code_JEDEC: MO-220-VMMD; ComponentLink1Description: Manufacturer URL; ComponentLink1URL: http://www.atmel.com/; ComponentLink2Description: ATmega329/3290/649/6490 Datasheet; ComponentLink2URL: http://www.atmel.com/dyn/resources/prod_documents/doc2552.pdf; ComponentLink3Description: ATmega329/3290/649/6490 Summary; ComponentLink3URL: http://www.atmel.com/dyn/resources/prod_documents/2552S.pdf
footprint 64M1_N (QFN, 64-Leads, Body 9x9mm, Pitch 0.5mm, Thermal Pad 5.6x5.6mm, IPC Medium Density)
footprint 64M1_L (QFN, 64-Leads, Body 9x9mm, Pitch 0.5mm, Thermal Pad 5.6x5.6mm, IPC High Density)
footprint 64M1_M (QFN, 64-Leads, Body 9x9mm, Pitch 0.5mm, Thermal Pad 5.6x5.6mm, IPC Low Density)
pins: 1 LCDCAP, 2 PE0 (RXD/PCINT0) (io), 3 PE1 (TXD/PCINT1) (io), 4 PE2 (XCK/AIN0/PCINT2) (io), 5 PE3 (AIN1/PCINT3) (io), 6 PE4 (USCK/SCL/PCINT4) (io), 7 PE5 (DI/SDA/PCINT5) (io), 8 PE6 (DO/PCINT6) (io), 9 PE7 (CLKO/PCINT7) (io), 10 PB0 (~{SS}/PCINT8) (io), 11 PB1 (SCK/PCINT9) (io), 12 PB2 (MOSI/PCINT10) (io), 13 PB3 (MISO/PCINT11) (io), 14 PB4 (OC0A/PCINT12) (io), 15 PB5 (OC1A/PCINT13) (io), 16 PB6 (OC1B/PCINT14) (io), 17 PB7 (OC2A/PCINT15) (io), 18 PG3 (T1/SEG24) (io), 19 PG4 (T0/SEG23) (io), 20 PG5 (~{RESET}) (io), 21 VCC (power), 22 GND (power), 23 (TOSC2) XTAL2, 24 (TOSC1) XTAL1, 25 PD0 (ICP1/SEG22) (io), 26 PD1 (INT0/SEG21) (io), 27 PD2 (SEG20) (io), 28 PD3 (SEG19) (io), 29 PD4 (SEG18) (io), 30 PD5 (SEG17) (io), 31 PD6 (SEG16) (io), 32 PD7 (SEG15) (io), 33 PG0 (SEG14) (io), 34 PG1 (SEG13) (io), 35 PC0 (SEG12) (io), 36 PC1 (SEG11) (io), 37 PC2 (SEG10) (io), 38 PC3 (SEG9) (io), 39 PC4 (SEG8) (io), 40 PC5 (SEG7) (io), 41 PC6 (SEG6) (io), 42 PC7 (SEG5) (io), 43 PG2 (SEG4) (io), 44 PA7 (SEG3) (io), 45 PA6 (SEG2) (io), 46 PA5 (SEG1) (io), 47 PA4 (SEG0) (io), 48 PA3 (COM3) (io), 49 PA2 (COM2) (io), 50 PA1 (COM1) (io), 51 PA0 (COM0) (io), 52 VCC (power), 53 GND (power), 54 PF7 (ADC7/TDI) (io), 55 PF6 (ADC6/TDO) (io), 56 PF5 (ADC5/TMS) (io), 57 PF4 (ADC4/TCK) (io), 58 PF3 (ADC3) (io), 59 PF2 (ADC2) (io), 60 PF1 (ADC1) (io), 61 PF0 (ADC0) (io), 62 AREF, 63 GND (power), 64 AVCC (power), 65 DAP (power)

## ATmega329-16MUR
designator U?
8-bit AVR Microcontroller, 2.7-5.5V, 32KB Flash, 1KB EEPROM, 2KB SRAM, 64-pin MLF, Industrial Grade (-40°C to 85°C), Reel; DatasheetVersion: revK, Apr-2011; PackageVersion: revH, Oct-2010; PackageReference: 64M1; PackageDescription: 64-Pin Micro Lead Frame Package (MLF), 9 x 9 x 1.0 mm Body, 0.5 mm Pitch, 5.40 mm Exposed Pad; Code_JEDEC: MO-220-VMMD; ComponentLink1Description: Manufacturer URL; ComponentLink1URL: http://www.atmel.com/; ComponentLink2Description: ATmega329/3290/649/6490 Datasheet; ComponentLink2URL: http://www.atmel.com/dyn/resources/prod_documents/doc2552.pdf; ComponentLink3Description: ATmega329/3290/649/6490 Summary; ComponentLink3URL: http://www.atmel.com/dyn/resources/prod_documents/2552S.pdf
footprint 64M1_N (QFN, 64-Leads, Body 9x9mm, Pitch 0.5mm, Thermal Pad 5.6x5.6mm, IPC Medium Density)
footprint 64M1_L (QFN, 64-Leads, Body 9x9mm, Pitch 0.5mm, Thermal Pad 5.6x5.6mm, IPC High Density)
footprint 64M1_M (QFN, 64-Leads, Body 9x9mm, Pitch 0.5mm, Thermal Pad 5.6x5.6mm, IPC Low Density)
pins: 1 LCDCAP, 2 PE0 (RXD/PCINT0) (io), 3 PE1 (TXD/PCINT1) (io), 4 PE2 (XCK/AIN0/PCINT2) (io), 5 PE3 (AIN1/PCINT3) (io), 6 PE4 (USCK/SCL/PCINT4) (io), 7 PE5 (DI/SDA/PCINT5) (io), 8 PE6 (DO/PCINT6) (io), 9 PE7 (CLKO/PCINT7) (io), 10 PB0 (~{SS}/PCINT8) (io), 11 PB1 (SCK/PCINT9) (io), 12 PB2 (MOSI/PCINT10) (io), 13 PB3 (MISO/PCINT11) (io), 14 PB4 (OC0A/PCINT12) (io), 15 PB5 (OC1A/PCINT13) (io), 16 PB6 (OC1B/PCINT14) (io), 17 PB7 (OC2A/PCINT15) (io), 18 PG3 (T1/SEG24) (io), 19 PG4 (T0/SEG23) (io), 20 PG5 (~{RESET}) (io), 21 VCC (power), 22 GND (power), 23 (TOSC2) XTAL2, 24 (TOSC1) XTAL1, 25 PD0 (ICP1/SEG22) (io), 26 PD1 (INT0/SEG21) (io), 27 PD2 (SEG20) (io), 28 PD3 (SEG19) (io), 29 PD4 (SEG18) (io), 30 PD5 (SEG17) (io), 31 PD6 (SEG16) (io), 32 PD7 (SEG15) (io), 33 PG0 (SEG14) (io), 34 PG1 (SEG13) (io), 35 PC0 (SEG12) (io), 36 PC1 (SEG11) (io), 37 PC2 (SEG10) (io), 38 PC3 (SEG9) (io), 39 PC4 (SEG8) (io), 40 PC5 (SEG7) (io), 41 PC6 (SEG6) (io), 42 PC7 (SEG5) (io), 43 PG2 (SEG4) (io), 44 PA7 (SEG3) (io), 45 PA6 (SEG2) (io), 46 PA5 (SEG1) (io), 47 PA4 (SEG0) (io), 48 PA3 (COM3) (io), 49 PA2 (COM2) (io), 50 PA1 (COM1) (io), 51 PA0 (COM0) (io), 52 VCC (power), 53 GND (power), 54 PF7 (ADC7/TDI) (io), 55 PF6 (ADC6/TDO) (io), 56 PF5 (ADC5/TMS) (io), 57 PF4 (ADC4/TCK) (io), 58 PF3 (ADC3) (io), 59 PF2 (ADC2) (io), 60 PF1 (ADC1) (io), 61 PF0 (ADC0) (io), 62 AREF, 63 GND (power), 64 AVCC (power), 65 DAP (power)

## ATmega329A-AU
designator U?
8-bit AVR Microcontroller, 1.8-5.5V, 32KB Flash, 1KB EEPROM, 2KB SRAM, 64-pin TQFP, Industrial Grade (-40°C to 85°C); DatasheetVersion: revD, Jun-2011; PackageVersion: revC, Oct-2010; PackageReference: 64A; PackageDescription: 64-Pin Plastic Thin Profile Quad Flat Pack, 14 x 14 x 1.0 mm Body, 0.8 mm Pitch (TQFP); Code_JEDEC: MS-026-AEB; ComponentLink1Description: Manufacturer URL; ComponentLink1URL: http://www.atmel.com/; ComponentLink2Description: ATmega169A/PA/329A/PA/3290A/PA/649A/P/6490A/P; ComponentLink2URL: http://www.atmel.com/dyn/resources/prod_documents/doc8284.pdf; ComponentLink3Description: ATmega169A/PA/329A/PA/3290A/PA/649A/P/6490/A/P Summary; ComponentLink3URL: http://www.atmel.com/dyn/resources/prod_documents/8284S.pdf
footprint 64A_N (Thin QFP, 64-Leads, Body 14x14mm, Pitch 0.8mm, IPC Medium Density)
footprint 64A_L (Thin QFP, 64-Leads, Body 14x14mm, Pitch 0.8mm, IPC High Density)
footprint 64A_M (Thin QFP, 64-Leads, Body 14x14mm, Pitch 0.8mm, IPC Low Density)
pins: 1 LCDCAP, 2 PE0 (RXD/PCINT0) (io), 3 PE1 (TXD/PCINT1) (io), 4 PE2 (XCK/AIN0/PCINT2) (io), 5 PE3 (AIN1/PCINT3) (io), 6 PE4 (USCK/SCL/PCINT4) (io), 7 PE5 (DI/SDA/PCINT5) (io), 8 PE6 (DO/PCINT6) (io), 9 PE7 (CLKO/PCINT7) (io), 10 PB0 (~{SS}/PCINT8) (io), 11 PB1 (SCK/PCINT9) (io), 12 PB2 (MOSI/PCINT10) (io), 13 PB3 (MISO/PCINT11) (io), 14 PB4 (OC0A/PCINT12) (io), 15 PB5 (OC1A/PCINT13) (io), 16 PB6 (OC1B/PCINT14) (io), 17 PB7 (OC2A/PCINT15) (io), 18 PG3 (T1/SEG24) (io), 19 PG4 (T0/SEG23) (io), 20 PG5 (~{RESET}) (io), 21 VCC (power), 22 GND (power), 23 (TOSC2) XTAL2, 24 (TOSC1) XTAL1, 25 PD0 (ICP1/SEG22) (io), 26 PD1 (INT0/SEG21) (io), 27 PD2 (SEG20) (io), 28 PD3 (SEG19) (io), 29 PD4 (SEG18) (io), 30 PD5 (SEG17) (io), 31 PD6 (SEG16) (io), 32 PD7 (SEG15) (io), 33 PG0 (SEG14) (io), 34 PG1 (SEG13) (io), 35 PC0 (SEG12) (io), 36 PC1 (SEG11) (io), 37 PC2 (SEG10) (io), 38 PC3 (SEG9) (io), 39 PC4 (SEG8) (io), 40 PC5 (SEG7) (io), 41 PC6 (SEG6) (io), 42 PC7 (SEG5) (io), 43 PG2 (SEG4) (io), 44 PA7 (SEG3) (io), 45 PA6 (SEG2) (io), 46 PA5 (SEG1) (io), 47 PA4 (SEG0) (io), 48 PA3 (COM3) (io), 49 PA2 (COM2) (io), 50 PA1 (COM1) (io), 51 PA0 (COM0) (io), 52 VCC (power), 53 GND (power), 54 PF7 (ADC7/TDI) (io), 55 PF6 (ADC6/TDO) (io), 56 PF5 (ADC5/TMS) (io), 57 PF4 (ADC4/TCK) (io), 58 PF3 (ADC3) (io), 59 PF2 (ADC2) (io), 60 PF1 (ADC1) (io), 61 PF0 (ADC0) (io), 62 AREF, 63 GND (power), 64 AVCC (power)

## ATmega329A-AUR
designator U?
8-bit AVR Microcontroller, 1.8-5.5V, 32KB Flash, 1KB EEPROM, 2KB SRAM, 64-pin TQFP, Industrial Grade (-40°C to 85°C), Reel; DatasheetVersion: revD, Jun-2011; PackageVersion: revC, Oct-2010; PackageReference: 64A; PackageDescription: 64-Pin Plastic Thin Profile Quad Flat Pack, 14 x 14 x 1.0 mm Body, 0.8 mm Pitch (TQFP); Code_JEDEC: MS-026-AEB; ComponentLink1Description: Manufacturer URL; ComponentLink1URL: http://www.atmel.com/; ComponentLink2Description: ATmega169A/PA/329A/PA/3290A/PA/649A/P/6490A/P; ComponentLink2URL: http://www.atmel.com/dyn/resources/prod_documents/doc8284.pdf; ComponentLink3Description: ATmega169A/PA/329A/PA/3290A/PA/649A/P/6490/A/P Summary; ComponentLink3URL: http://www.atmel.com/dyn/resources/prod_documents/8284S.pdf
footprint 64A_N (Thin QFP, 64-Leads, Body 14x14mm, Pitch 0.8mm, IPC Medium Density)
footprint 64A_L (Thin QFP, 64-Leads, Body 14x14mm, Pitch 0.8mm, IPC High Density)
footprint 64A_M (Thin QFP, 64-Leads, Body 14x14mm, Pitch 0.8mm, IPC Low Density)
pins: 1 LCDCAP, 2 PE0 (RXD/PCINT0) (io), 3 PE1 (TXD/PCINT1) (io), 4 PE2 (XCK/AIN0/PCINT2) (io), 5 PE3 (AIN1/PCINT3) (io), 6 PE4 (USCK/SCL/PCINT4) (io), 7 PE5 (DI/SDA/PCINT5) (io), 8 PE6 (DO/PCINT6) (io), 9 PE7 (CLKO/PCINT7) (io), 10 PB0 (~{SS}/PCINT8) (io), 11 PB1 (SCK/PCINT9) (io), 12 PB2 (MOSI/PCINT10) (io), 13 PB3 (MISO/PCINT11) (io), 14 PB4 (OC0A/PCINT12) (io), 15 PB5 (OC1A/PCINT13) (io), 16 PB6 (OC1B/PCINT14) (io), 17 PB7 (OC2A/PCINT15) (io), 18 PG3 (T1/SEG24) (io), 19 PG4 (T0/SEG23) (io), 20 PG5 (~{RESET}) (io), 21 VCC (power), 22 GND (power), 23 (TOSC2) XTAL2, 24 (TOSC1) XTAL1, 25 PD0 (ICP1/SEG22) (io), 26 PD1 (INT0/SEG21) (io), 27 PD2 (SEG20) (io), 28 PD3 (SEG19) (io), 29 PD4 (SEG18) (io), 30 PD5 (SEG17) (io), 31 PD6 (SEG16) (io), 32 PD7 (SEG15) (io), 33 PG0 (SEG14) (io), 34 PG1 (SEG13) (io), 35 PC0 (SEG12) (io), 36 PC1 (SEG11) (io), 37 PC2 (SEG10) (io), 38 PC3 (SEG9) (io), 39 PC4 (SEG8) (io), 40 PC5 (SEG7) (io), 41 PC6 (SEG6) (io), 42 PC7 (SEG5) (io), 43 PG2 (SEG4) (io), 44 PA7 (SEG3) (io), 45 PA6 (SEG2) (io), 46 PA5 (SEG1) (io), 47 PA4 (SEG0) (io), 48 PA3 (COM3) (io), 49 PA2 (COM2) (io), 50 PA1 (COM1) (io), 51 PA0 (COM0) (io), 52 VCC (power), 53 GND (power), 54 PF7 (ADC7/TDI) (io), 55 PF6 (ADC6/TDO) (io), 56 PF5 (ADC5/TMS) (io), 57 PF4 (ADC4/TCK) (io), 58 PF3 (ADC3) (io), 59 PF2 (ADC2) (io), 60 PF1 (ADC1) (io), 61 PF0 (ADC0) (io), 62 AREF, 63 GND (power), 64 AVCC (power)

## ATmega329A-MU
designator U?
8-bit AVR Microcontroller, 1.8-5.5V, 32KB Flash, 1KB EEPROM, 2KB SRAM, 64-pin MLF, Industrial Grade (-40°C to 85°C); DatasheetVersion: revD, Jun-2011; PackageVersion: revH, Oct-2010; PackageReference: 64M1; PackageDescription: 64-Pin Micro Lead Frame Package (MLF), 9 x 9 x 1.0 mm Body, 0.5 mm Pitch, 5.40 mm Exposed Pad; Code_JEDEC: MO-220-VMMD; ComponentLink1Description: Manufacturer URL; ComponentLink1URL: http://www.atmel.com/; ComponentLink2Description: ATmega169A/PA/329A/PA/3290A/PA/649A/P/6490A/P; ComponentLink2URL: http://www.atmel.com/dyn/resources/prod_documents/doc8284.pdf; ComponentLink3Description: ATmega169A/PA/329A/PA/3290A/PA/649A/P/6490/A/P Summary; ComponentLink3URL: http://www.atmel.com/dyn/resources/prod_documents/8284S.pdf
footprint 64M1_N (QFN, 64-Leads, Body 9x9mm, Pitch 0.5mm, Thermal Pad 5.6x5.6mm, IPC Medium Density)
footprint 64M1_L (QFN, 64-Leads, Body 9x9mm, Pitch 0.5mm, Thermal Pad 5.6x5.6mm, IPC High Density)
footprint 64M1_M (QFN, 64-Leads, Body 9x9mm, Pitch 0.5mm, Thermal Pad 5.6x5.6mm, IPC Low Density)
pins: 1 LCDCAP, 2 PE0 (RXD/PCINT0) (io), 3 PE1 (TXD/PCINT1) (io), 4 PE2 (XCK/AIN0/PCINT2) (io), 5 PE3 (AIN1/PCINT3) (io), 6 PE4 (USCK/SCL/PCINT4) (io), 7 PE5 (DI/SDA/PCINT5) (io), 8 PE6 (DO/PCINT6) (io), 9 PE7 (CLKO/PCINT7) (io), 10 PB0 (~{SS}/PCINT8) (io), 11 PB1 (SCK/PCINT9) (io), 12 PB2 (MOSI/PCINT10) (io), 13 PB3 (MISO/PCINT11) (io), 14 PB4 (OC0A/PCINT12) (io), 15 PB5 (OC1A/PCINT13) (io), 16 PB6 (OC1B/PCINT14) (io), 17 PB7 (OC2A/PCINT15) (io), 18 PG3 (T1/SEG24) (io), 19 PG4 (T0/SEG23) (io), 20 PG5 (~{RESET}) (io), 21 VCC (power), 22 GND (power), 23 (TOSC2) XTAL2, 24 (TOSC1) XTAL1, 25 PD0 (ICP1/SEG22) (io), 26 PD1 (INT0/SEG21) (io), 27 PD2 (SEG20) (io), 28 PD3 (SEG19) (io), 29 PD4 (SEG18) (io), 30 PD5 (SEG17) (io), 31 PD6 (SEG16) (io), 32 PD7 (SEG15) (io), 33 PG0 (SEG14) (io), 34 PG1 (SEG13) (io), 35 PC0 (SEG12) (io), 36 PC1 (SEG11) (io), 37 PC2 (SEG10) (io), 38 PC3 (SEG9) (io), 39 PC4 (SEG8) (io), 40 PC5 (SEG7) (io), 41 PC6 (SEG6) (io), 42 PC7 (SEG5) (io), 43 PG2 (SEG4) (io), 44 PA7 (SEG3) (io), 45 PA6 (SEG2) (io), 46 PA5 (SEG1) (io), 47 PA4 (SEG0) (io), 48 PA3 (COM3) (io), 49 PA2 (COM2) (io), 50 PA1 (COM1) (io), 51 PA0 (COM0) (io), 52 VCC (power), 53 GND (power), 54 PF7 (ADC7/TDI) (io), 55 PF6 (ADC6/TDO) (io), 56 PF5 (ADC5/TMS) (io), 57 PF4 (ADC4/TCK) (io), 58 PF3 (ADC3) (io), 59 PF2 (ADC2) (io), 60 PF1 (ADC1) (io), 61 PF0 (ADC0) (io), 62 AREF, 63 GND (power), 64 AVCC (power), 65 DAP (power)

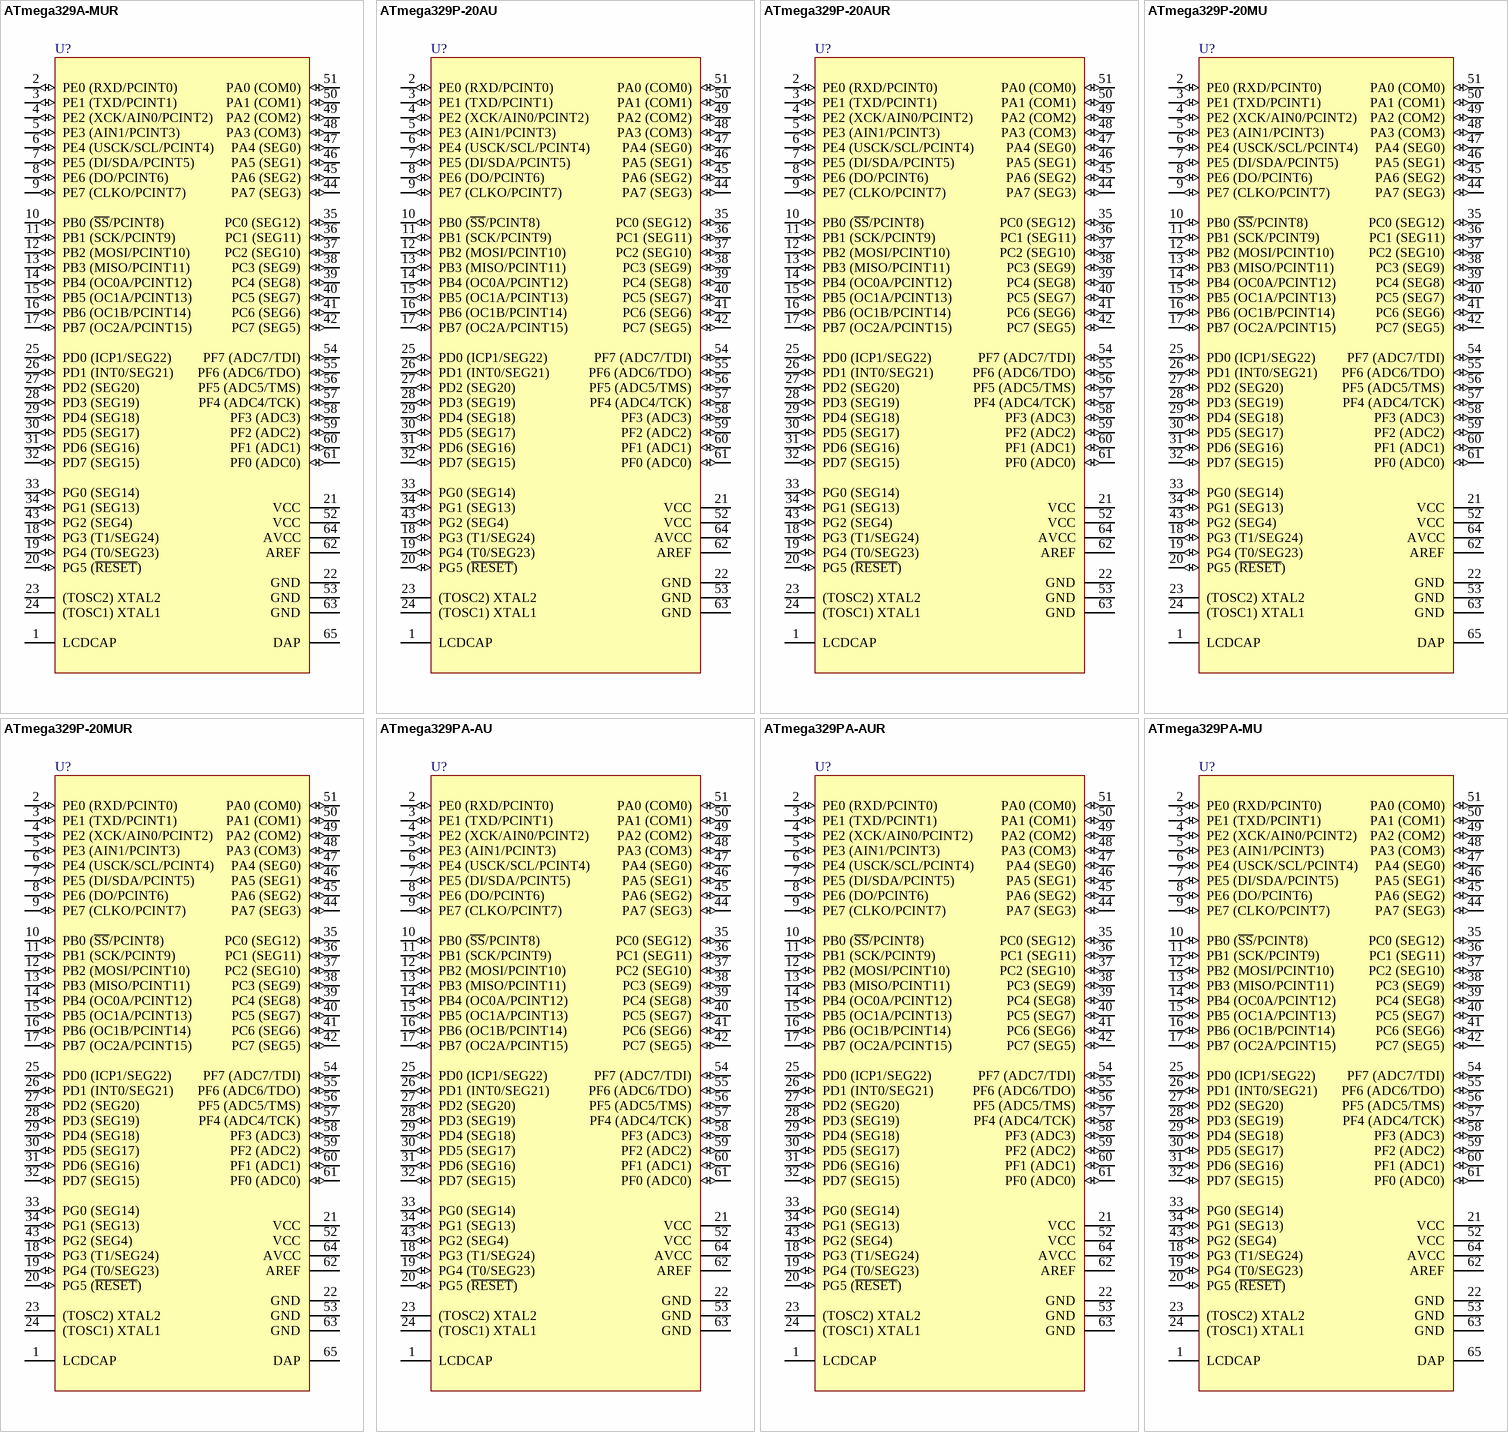
[diagram p45: symbols ATmega329A-MUR to ATmega329PA-MU]

## ATmega329A-MUR
designator U?
8-bit AVR Microcontroller, 1.8-5.5V, 32KB Flash, 1KB EEPROM, 2KB SRAM, 64-pin MLF, Industrial Grade (-40°C to 85°C), Reel; DatasheetVersion: revD, Jun-2011; PackageVersion: revH, Oct-2010; PackageReference: 64M1; PackageDescription: 64-Pin Micro Lead Frame Package (MLF), 9 x 9 x 1.0 mm Body, 0.5 mm Pitch, 5.40 mm Exposed Pad; Code_JEDEC: MO-220-VMMD; ComponentLink1Description: Manufacturer URL; ComponentLink1URL: http://www.atmel.com/; ComponentLink2Description: ATmega169A/PA/329A/PA/3290A/PA/649A/P/6490A/P; ComponentLink2URL: http://www.atmel.com/dyn/resources/prod_documents/doc8284.pdf; ComponentLink3Description: ATmega169A/PA/329A/PA/3290A/PA/649A/P/6490/A/P Summary; ComponentLink3URL: http://www.atmel.com/dyn/resources/prod_documents/8284S.pdf
footprint 64M1_N (QFN, 64-Leads, Body 9x9mm, Pitch 0.5mm, Thermal Pad 5.6x5.6mm, IPC Medium Density)
footprint 64M1_L (QFN, 64-Leads, Body 9x9mm, Pitch 0.5mm, Thermal Pad 5.6x5.6mm, IPC High Density)
footprint 64M1_M (QFN, 64-Leads, Body 9x9mm, Pitch 0.5mm, Thermal Pad 5.6x5.6mm, IPC Low Density)
pins: 1 LCDCAP, 2 PE0 (RXD/PCINT0) (io), 3 PE1 (TXD/PCINT1) (io), 4 PE2 (XCK/AIN0/PCINT2) (io), 5 PE3 (AIN1/PCINT3) (io), 6 PE4 (USCK/SCL/PCINT4) (io), 7 PE5 (DI/SDA/PCINT5) (io), 8 PE6 (DO/PCINT6) (io), 9 PE7 (CLKO/PCINT7) (io), 10 PB0 (~{SS}/PCINT8) (io), 11 PB1 (SCK/PCINT9) (io), 12 PB2 (MOSI/PCINT10) (io), 13 PB3 (MISO/PCINT11) (io), 14 PB4 (OC0A/PCINT12) (io), 15 PB5 (OC1A/PCINT13) (io), 16 PB6 (OC1B/PCINT14) (io), 17 PB7 (OC2A/PCINT15) (io), 18 PG3 (T1/SEG24) (io), 19 PG4 (T0/SEG23) (io), 20 PG5 (~{RESET}) (io), 21 VCC (power), 22 GND (power), 23 (TOSC2) XTAL2, 24 (TOSC1) XTAL1, 25 PD0 (ICP1/SEG22) (io), 26 PD1 (INT0/SEG21) (io), 27 PD2 (SEG20) (io), 28 PD3 (SEG19) (io), 29 PD4 (SEG18) (io), 30 PD5 (SEG17) (io), 31 PD6 (SEG16) (io), 32 PD7 (SEG15) (io), 33 PG0 (SEG14) (io), 34 PG1 (SEG13) (io), 35 PC0 (SEG12) (io), 36 PC1 (SEG11) (io), 37 PC2 (SEG10) (io), 38 PC3 (SEG9) (io), 39 PC4 (SEG8) (io), 40 PC5 (SEG7) (io), 41 PC6 (SEG6) (io), 42 PC7 (SEG5) (io), 43 PG2 (SEG4) (io), 44 PA7 (SEG3) (io), 45 PA6 (SEG2) (io), 46 PA5 (SEG1) (io), 47 PA4 (SEG0) (io), 48 PA3 (COM3) (io), 49 PA2 (COM2) (io), 50 PA1 (COM1) (io), 51 PA0 (COM0) (io), 52 VCC (power), 53 GND (power), 54 PF7 (ADC7/TDI) (io), 55 PF6 (ADC6/TDO) (io), 56 PF5 (ADC5/TMS) (io), 57 PF4 (ADC4/TCK) (io), 58 PF3 (ADC3) (io), 59 PF2 (ADC2) (io), 60 PF1 (ADC1) (io), 61 PF0 (ADC0) (io), 62 AREF, 63 GND (power), 64 AVCC (power), 65 DAP (power)